# Altium integrated library Microchip DSC 16-Bit dsPIC30F.IntLib: 277 symbols (part 8 of 12)
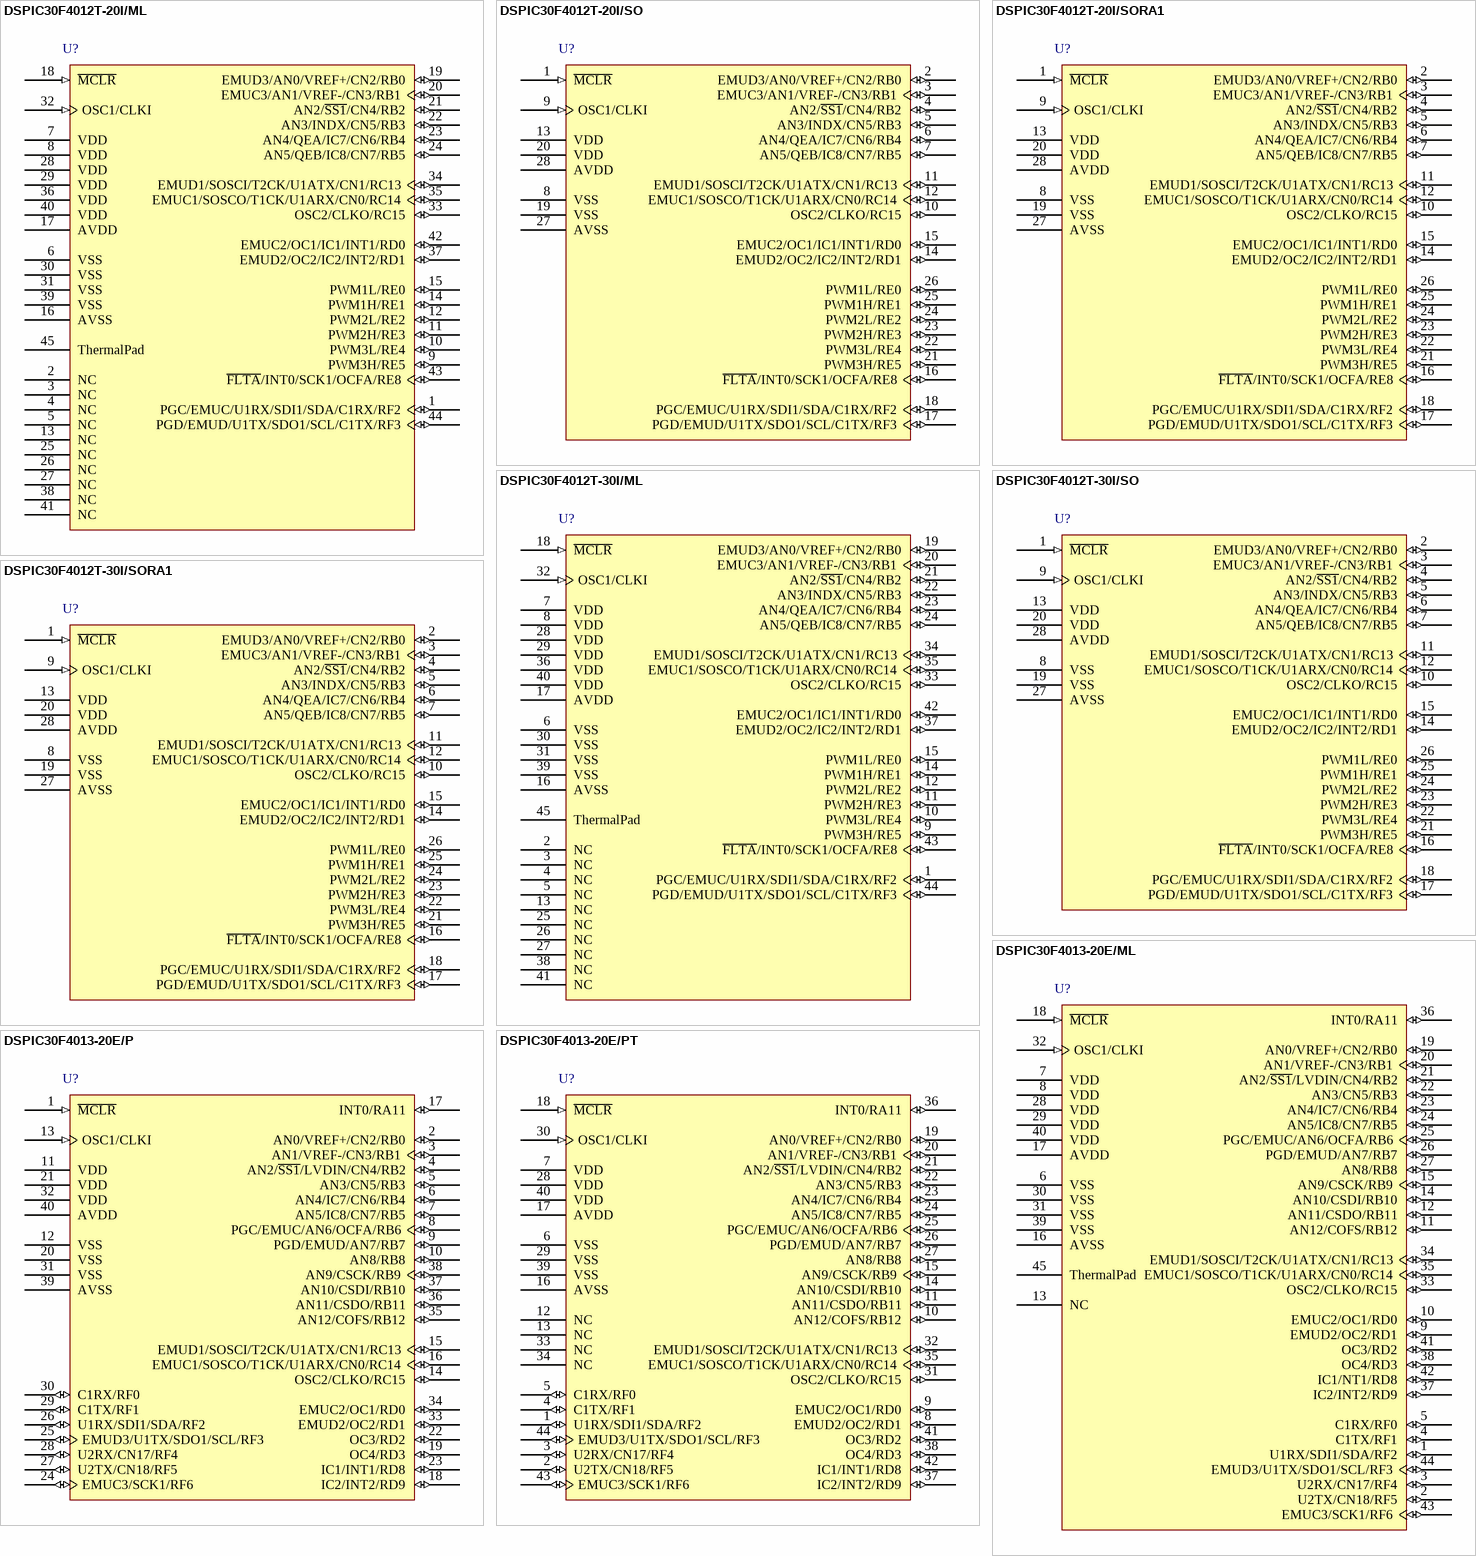
[diagram p51: symbols DSPIC30F4012T-20I/ML to DSPIC30F4013-20E/PT]

## DSPIC30F4013-20E/PT
designator U?
High-Performance 16-bit Digital Signal Controller, 48 KB Flash, 2 KB SRAM, 1 KB EEPROM, 44-Pin TQFP, Extended High Temperature; Published: 29-Jan-2009; DatasheetVersion: revF, Apr-2008; PackageVersion: revAW, Oct-2008; PackageReference: TQFP-PT44; Publisher: Altium Limited; PackageDescription: 44-Lead Plastic Thin Quad Flatpack (PT) - 10x10x1mm Body, 2.00mm [TQFP]; Code_JEDEC: MS-026; ComponentLink1Description: Manufacturer Link; ComponentLink1URL: http://www.microchip.com; ComponentLink2Description: Datasheet; ComponentLink2URL: http://ww1.microchip.com/downloads/en/DeviceDoc/70138F.pdf; ComponentLink3Description: Packaging Specification; ComponentLink3URL: http://ww1.microchip.com/downloads/en/PackagingSpec/00049AW.pdf
footprint TQFP-PT44_N (Thin QFP, 44-Leads, Body 10x10mm, Pitch 0.8mm, IPC Medium Density)
footprint TQFP-PT44_L (Thin QFP, 44-Leads, Body 10x10mm, Pitch 0.8mm, IPC High Density)
footprint TQFP-PT44_M (Thin QFP, 44-Leads, Body 10x10mm, Pitch 0.8mm, IPC Low Density)
pins: 1 U1RX/SDI1/SDA/RF2 (io), 2 U2TX/CN18/RF5 (io), 3 U2RX/CN17/RF4 (io), 4 C1TX/RF1 (io), 5 C1RX/RF0 (io), 6 VSS (power), 7 VDD (power), 8 EMUD2/OC2/RD1 (io), 9 EMUC2/OC1/RD0 (io), 10 AN12/COFS/RB12 (io), 11 AN11/CSDO/RB11 (io), 12 NC, 13 NC, 14 AN10/CSDI/RB10 (io), 15 AN9/CSCK/RB9 (io), 16 AVSS (power), 17 AVDD (power), 18 ~{MCLR} (in), 19 AN0/VREF+/CN2/RB0 (io), 20 AN1/VREF-/CN3/RB1 (io), 21 AN2/~{SS1}/LVDIN/CN4/RB2 (io), 22 AN3/CN5/RB3 (io), 23 AN4/IC7/CN6/RB4 (io), 24 AN5/IC8/CN7/RB5 (io), 25 PGC/EMUC/AN6/OCFA/RB6 (io), 26 PGD/EMUD/AN7/RB7 (io), 27 AN8/RB8 (io), 28 VDD (power), 29 VSS (power), 30 OSC1/CLKI (in), 31 OSC2/CLKO/RC15 (io), 32 EMUD1/SOSCI/T2CK/U1ATX/CN1/RC13 (io), 33 NC, 34 NC, 35 EMUC1/SOSCO/T1CK/U1ARX/CN0/RC14 (io), 36 INT0/RA11 (io), 37 IC2/INT2/RD9 (io), 38 OC4/RD3 (io), 39 VSS (power), 40 VDD (power), 41 OC3/RD2 (io), 42 IC1/INT1/RD8 (io), 43 EMUC3/SCK1/RF6 (io), 44 EMUD3/U1TX/SDO1/SCL/RF3 (io)

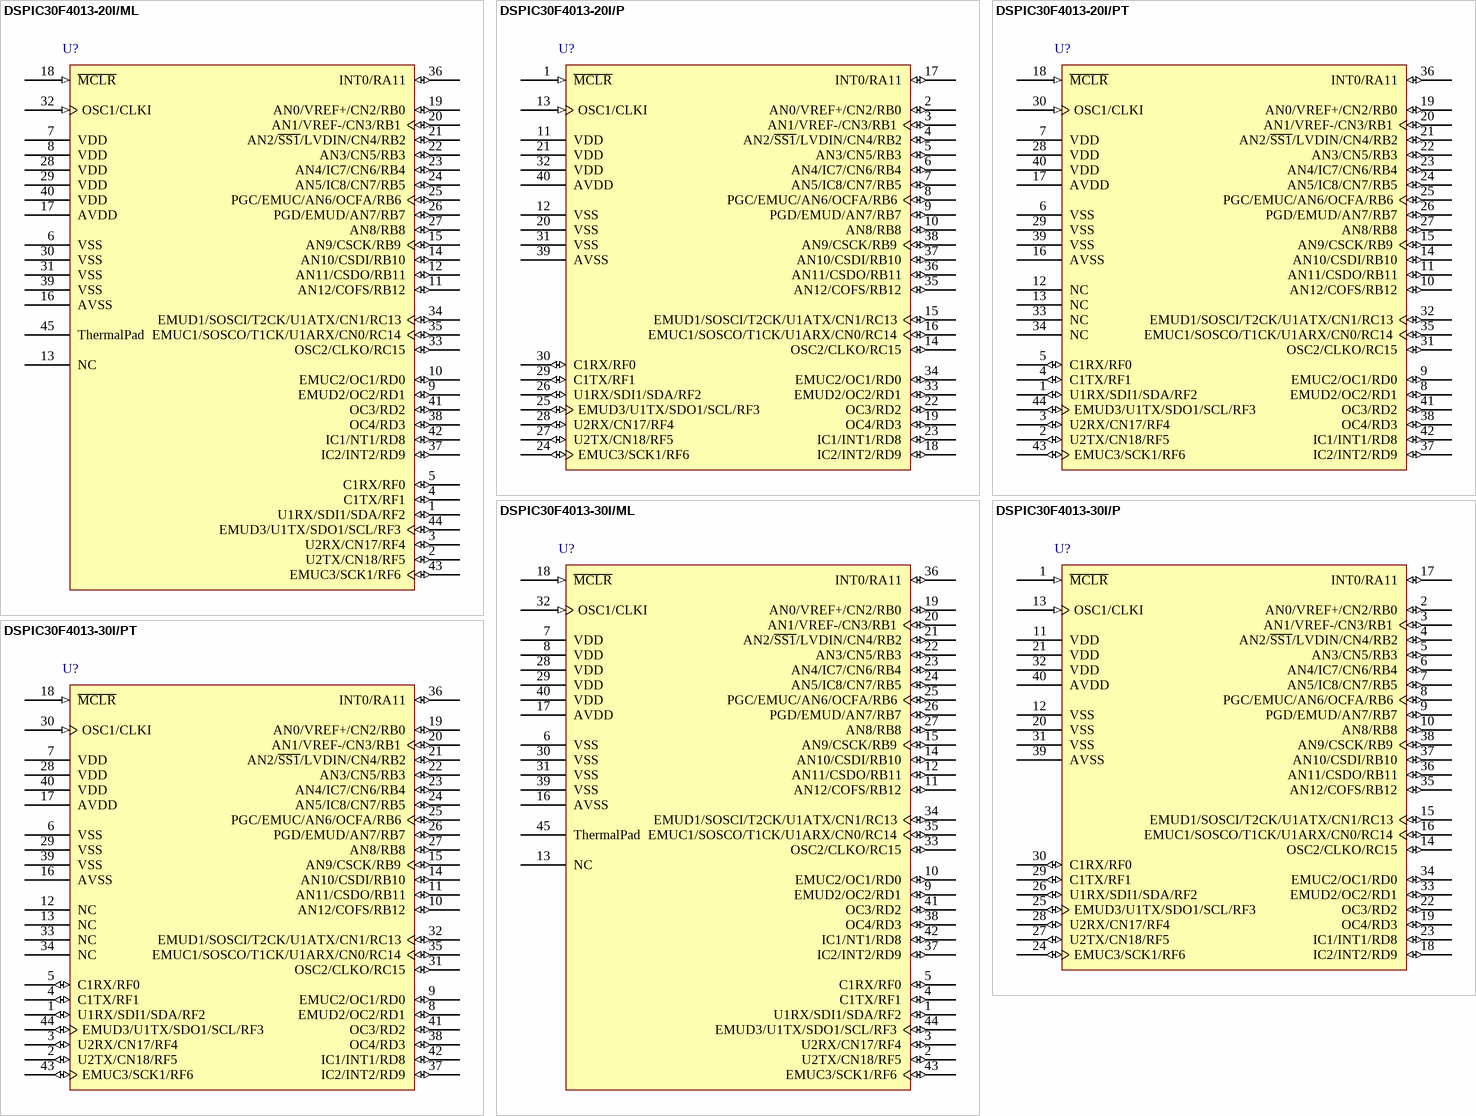
[diagram p25: symbols DSPIC30F4013-20I/ML to DSPIC30F4013-30I/PT]

## DSPIC30F4013-20I/ML
designator U?
High-Performance 16-bit Digital Signal Controller, 48 KB Flash, 2 KB SRAM, 1 KB EEPROM, 44-Pin QFN, Industrial Temperature; Published: 29-Jan-2009; DatasheetVersion: revF, Apr-2008; PackageVersion: revAW, Oct-2008; PackageReference: QFN-ML44; Publisher: Altium Limited; PackageDescription: 44-Lead Plastic Quad Flat, No Lead Package (ML) - 8x8 mm Body [QFN]; Code_JEDEC: MO-220; Code_IPC: QFN65P800X800-44V2; ComponentLink1Description: Manufacturer Link; ComponentLink1URL: http://www.microchip.com; ComponentLink2Description: Datasheet; ComponentLink2URL: http://ww1.microchip.com/downloads/en/DeviceDoc/70138F.pdf; ComponentLink3Description: Packaging Specification; ComponentLink3URL: http://ww1.microchip.com/downloads/en/PackagingSpec/00049AW.pdf
footprint QFN-ML44_N (QFN, 44-Leads, Body 8x8 mm, Pitch 0.65mm, IPC Medium Density)
footprint QFN-ML44_L (QFN, 44-Leads, Body 8x8 mm, Pitch 0.65mm, IPC High Density)
footprint QFN-ML44_M (QFN, 44-Leads, Body 8x8 mm, Pitch 0.65mm, IPC Low Density)
pins: 1 U1RX/SDI1/SDA/RF2 (io), 2 U2TX/CN18/RF5 (io), 3 U2RX/CN17/RF4 (io), 4 C1TX/RF1 (io), 5 C1RX/RF0 (io), 6 VSS (power), 7 VDD (power), 8 VDD (power), 9 EMUD2/OC2/RD1 (io), 10 EMUC2/OC1/RD0 (io), 11 AN12/COFS/RB12 (io), 12 AN11/CSDO/RB11 (io), 13 NC, 14 AN10/CSDI/RB10 (io), 15 AN9/CSCK/RB9 (io), 16 AVSS (power), 17 AVDD (power), 18 ~{MCLR} (in), 19 AN0/VREF+/CN2/RB0 (io), 20 AN1/VREF-/CN3/RB1 (io), 21 AN2/~{SS1}/LVDIN/CN4/RB2 (io), 22 AN3/CN5/RB3 (io), 23 AN4/IC7/CN6/RB4 (io), 24 AN5/IC8/CN7/RB5 (io), 25 PGC/EMUC/AN6/OCFA/RB6 (io), 26 PGD/EMUD/AN7/RB7 (io), 27 AN8/RB8 (io), 28 VDD (power), 29 VDD (power), 30 VSS (power), 31 VSS (power), 32 OSC1/CLKI (in), 33 OSC2/CLKO/RC15 (io), 34 EMUD1/SOSCI/T2CK/U1ATX/CN1/RC13 (io), 35 EMUC1/SOSCO/T1CK/U1ARX/CN0/RC14 (io), 36 INT0/RA11 (io), 37 IC2/INT2/RD9 (io), 38 OC4/RD3 (io), 39 VSS (power), 40 VDD (power), 41 OC3/RD2 (io), 42 IC1/NT1/RD8 (io), 43 EMUC3/SCK1/RF6 (io), 44 EMUD3/U1TX/SDO1/SCL/RF3 (io), 45 ThermalPad

## DSPIC30F4013-20I/P
designator U?
High-Performance 16-bit Digital Signal Controller, 48 KB Flash, 2 KB SRAM, 1 KB EEPROM, 40-Pin PDIP, Industrial Temperature; Published: 29-Jan-2009; DatasheetVersion: revF, Apr-2008; PackageVersion: revAW, Oct-2008; PackageReference: PDIP600-P40; Publisher: Altium Limited; PackageDescription: 40-Lead Plastic Dual In-Line (P) - 600 mil Body [PDIP]; ComponentLink1Description: Manufacturer Link; ComponentLink1URL: http://www.microchip.com; ComponentLink2Description: Datasheet; ComponentLink2URL: http://ww1.microchip.com/downloads/en/DeviceDoc/70138F.pdf; ComponentLink3Description: Packaging Specification; ComponentLink3URL: http://ww1.microchip.com/downloads/en/PackagingSpec/00049AW.pdf
footprint PDIP600-P40 (DIP, 40-Leads, Row Spacing 15.24mm, Pitch 2.54mm, Body 51.8x13.5mm)
pins: 1 ~{MCLR} (in), 2 AN0/VREF+/CN2/RB0 (io), 3 AN1/VREF-/CN3/RB1 (io), 4 AN2/~{SS1}/LVDIN/CN4/RB2 (io), 5 AN3/CN5/RB3 (io), 6 AN4/IC7/CN6/RB4 (io), 7 AN5/IC8/CN7/RB5 (io), 8 PGC/EMUC/AN6/OCFA/RB6 (io), 9 PGD/EMUD/AN7/RB7 (io), 10 AN8/RB8 (io), 11 VDD (power), 12 VSS (power), 13 OSC1/CLKI (in), 14 OSC2/CLKO/RC15 (io), 15 EMUD1/SOSCI/T2CK/U1ATX/CN1/RC13 (io), 16 EMUC1/SOSCO/T1CK/U1ARX/CN0/RC14 (io), 17 INT0/RA11 (io), 18 IC2/INT2/RD9 (io), 19 OC4/RD3 (io), 20 VSS (power), 21 VDD (power), 22 OC3/RD2 (io), 23 IC1/INT1/RD8 (io), 24 EMUC3/SCK1/RF6 (io), 25 EMUD3/U1TX/SDO1/SCL/RF3 (io), 26 U1RX/SDI1/SDA/RF2 (io), 27 U2TX/CN18/RF5 (io), 28 U2RX/CN17/RF4 (io), 29 C1TX/RF1 (io), 30 C1RX/RF0 (io), 31 VSS (power), 32 VDD (power), 33 EMUD2/OC2/RD1 (io), 34 EMUC2/OC1/RD0 (io), 35 AN12/COFS/RB12 (io), 36 AN11/CSDO/RB11 (io), 37 AN10/CSDI/RB10 (io), 38 AN9/CSCK/RB9 (io), 39 AVSS (power), 40 AVDD (power)

## DSPIC30F4013-20I/PT
designator U?
High-Performance 16-bit Digital Signal Controller, 48 KB Flash, 2 KB SRAM, 1 KB EEPROM, 44-Pin TQFP, Industrial Temperature; Published: 29-Jan-2009; DatasheetVersion: revF, Apr-2008; PackageVersion: revAW, Oct-2008; PackageReference: TQFP-PT44; Publisher: Altium Limited; PackageDescription: 44-Lead Plastic Thin Quad Flatpack (PT) - 10x10x1mm Body, 2.00mm [TQFP]; Code_JEDEC: MS-026; ComponentLink1Description: Manufacturer Link; ComponentLink1URL: http://www.microchip.com; ComponentLink2Description: Datasheet; ComponentLink2URL: http://ww1.microchip.com/downloads/en/DeviceDoc/70138F.pdf; ComponentLink3Description: Packaging Specification; ComponentLink3URL: http://ww1.microchip.com/downloads/en/PackagingSpec/00049AW.pdf
footprint TQFP-PT44_N (Thin QFP, 44-Leads, Body 10x10mm, Pitch 0.8mm, IPC Medium Density)
footprint TQFP-PT44_L (Thin QFP, 44-Leads, Body 10x10mm, Pitch 0.8mm, IPC High Density)
footprint TQFP-PT44_M (Thin QFP, 44-Leads, Body 10x10mm, Pitch 0.8mm, IPC Low Density)
pins: 1 U1RX/SDI1/SDA/RF2 (io), 2 U2TX/CN18/RF5 (io), 3 U2RX/CN17/RF4 (io), 4 C1TX/RF1 (io), 5 C1RX/RF0 (io), 6 VSS (power), 7 VDD (power), 8 EMUD2/OC2/RD1 (io), 9 EMUC2/OC1/RD0 (io), 10 AN12/COFS/RB12 (io), 11 AN11/CSDO/RB11 (io), 12 NC, 13 NC, 14 AN10/CSDI/RB10 (io), 15 AN9/CSCK/RB9 (io), 16 AVSS (power), 17 AVDD (power), 18 ~{MCLR} (in), 19 AN0/VREF+/CN2/RB0 (io), 20 AN1/VREF-/CN3/RB1 (io), 21 AN2/~{SS1}/LVDIN/CN4/RB2 (io), 22 AN3/CN5/RB3 (io), 23 AN4/IC7/CN6/RB4 (io), 24 AN5/IC8/CN7/RB5 (io), 25 PGC/EMUC/AN6/OCFA/RB6 (io), 26 PGD/EMUD/AN7/RB7 (io), 27 AN8/RB8 (io), 28 VDD (power), 29 VSS (power), 30 OSC1/CLKI (in), 31 OSC2/CLKO/RC15 (io), 32 EMUD1/SOSCI/T2CK/U1ATX/CN1/RC13 (io), 33 NC, 34 NC, 35 EMUC1/SOSCO/T1CK/U1ARX/CN0/RC14 (io), 36 INT0/RA11 (io), 37 IC2/INT2/RD9 (io), 38 OC4/RD3 (io), 39 VSS (power), 40 VDD (power), 41 OC3/RD2 (io), 42 IC1/INT1/RD8 (io), 43 EMUC3/SCK1/RF6 (io), 44 EMUD3/U1TX/SDO1/SCL/RF3 (io)

## DSPIC30F4013-30I/ML
designator U?
High-Performance 16-bit Digital Signal Controller, 48 KB Flash, 2 KB SRAM, 1 KB EEPROM, 44-Pin QFN, Industrial Temperature; Published: 29-Jan-2009; DatasheetVersion: revF, Apr-2008; PackageVersion: revAW, Oct-2008; PackageReference: QFN-ML44; Publisher: Altium Limited; PackageDescription: 44-Lead Plastic Quad Flat, No Lead Package (ML) - 8x8 mm Body [QFN]; Code_JEDEC: MO-220; Code_IPC: QFN65P800X800-44V2; ComponentLink1Description: Manufacturer Link; ComponentLink1URL: http://www.microchip.com; ComponentLink2Description: Datasheet; ComponentLink2URL: http://ww1.microchip.com/downloads/en/DeviceDoc/70138F.pdf; ComponentLink3Description: Packaging Specification; ComponentLink3URL: http://ww1.microchip.com/downloads/en/PackagingSpec/00049AW.pdf
footprint QFN-ML44_N (QFN, 44-Leads, Body 8x8 mm, Pitch 0.65mm, IPC Medium Density)
footprint QFN-ML44_L (QFN, 44-Leads, Body 8x8 mm, Pitch 0.65mm, IPC High Density)
footprint QFN-ML44_M (QFN, 44-Leads, Body 8x8 mm, Pitch 0.65mm, IPC Low Density)
pins: 1 U1RX/SDI1/SDA/RF2 (io), 2 U2TX/CN18/RF5 (io), 3 U2RX/CN17/RF4 (io), 4 C1TX/RF1 (io), 5 C1RX/RF0 (io), 6 VSS (power), 7 VDD (power), 8 VDD (power), 9 EMUD2/OC2/RD1 (io), 10 EMUC2/OC1/RD0 (io), 11 AN12/COFS/RB12 (io), 12 AN11/CSDO/RB11 (io), 13 NC, 14 AN10/CSDI/RB10 (io), 15 AN9/CSCK/RB9 (io), 16 AVSS (power), 17 AVDD (power), 18 ~{MCLR} (in), 19 AN0/VREF+/CN2/RB0 (io), 20 AN1/VREF-/CN3/RB1 (io), 21 AN2/~{SS1}/LVDIN/CN4/RB2 (io), 22 AN3/CN5/RB3 (io), 23 AN4/IC7/CN6/RB4 (io), 24 AN5/IC8/CN7/RB5 (io), 25 PGC/EMUC/AN6/OCFA/RB6 (io), 26 PGD/EMUD/AN7/RB7 (io), 27 AN8/RB8 (io), 28 VDD (power), 29 VDD (power), 30 VSS (power), 31 VSS (power), 32 OSC1/CLKI (in), 33 OSC2/CLKO/RC15 (io), 34 EMUD1/SOSCI/T2CK/U1ATX/CN1/RC13 (io), 35 EMUC1/SOSCO/T1CK/U1ARX/CN0/RC14 (io), 36 INT0/RA11 (io), 37 IC2/INT2/RD9 (io), 38 OC4/RD3 (io), 39 VSS (power), 40 VDD (power), 41 OC3/RD2 (io), 42 IC1/NT1/RD8 (io), 43 EMUC3/SCK1/RF6 (io), 44 EMUD3/U1TX/SDO1/SCL/RF3 (io), 45 ThermalPad

## DSPIC30F4013-30I/P
designator U?
High-Performance 16-bit Digital Signal Controller, 48 KB Flash, 2 KB SRAM, 1 KB EEPROM, 40-Pin PDIP, Industrial Temperature; Published: 29-Jan-2009; DatasheetVersion: revF, Apr-2008; PackageVersion: revAW, Oct-2008; PackageReference: PDIP600-P40; Publisher: Altium Limited; PackageDescription: 40-Lead Plastic Dual In-Line (P) - 600 mil Body [PDIP]; ComponentLink1Description: Manufacturer Link; ComponentLink1URL: http://www.microchip.com; ComponentLink2Description: Datasheet; ComponentLink2URL: http://ww1.microchip.com/downloads/en/DeviceDoc/70138F.pdf; ComponentLink3Description: Packaging Specification; ComponentLink3URL: http://ww1.microchip.com/downloads/en/PackagingSpec/00049AW.pdf
footprint PDIP600-P40 (DIP, 40-Leads, Row Spacing 15.24mm, Pitch 2.54mm, Body 51.8x13.5mm)
pins: 1 ~{MCLR} (in), 2 AN0/VREF+/CN2/RB0 (io), 3 AN1/VREF-/CN3/RB1 (io), 4 AN2/~{SS1}/LVDIN/CN4/RB2 (io), 5 AN3/CN5/RB3 (io), 6 AN4/IC7/CN6/RB4 (io), 7 AN5/IC8/CN7/RB5 (io), 8 PGC/EMUC/AN6/OCFA/RB6 (io), 9 PGD/EMUD/AN7/RB7 (io), 10 AN8/RB8 (io), 11 VDD (power), 12 VSS (power), 13 OSC1/CLKI (in), 14 OSC2/CLKO/RC15 (io), 15 EMUD1/SOSCI/T2CK/U1ATX/CN1/RC13 (io), 16 EMUC1/SOSCO/T1CK/U1ARX/CN0/RC14 (io), 17 INT0/RA11 (io), 18 IC2/INT2/RD9 (io), 19 OC4/RD3 (io), 20 VSS (power), 21 VDD (power), 22 OC3/RD2 (io), 23 IC1/INT1/RD8 (io), 24 EMUC3/SCK1/RF6 (io), 25 EMUD3/U1TX/SDO1/SCL/RF3 (io), 26 U1RX/SDI1/SDA/RF2 (io), 27 U2TX/CN18/RF5 (io), 28 U2RX/CN17/RF4 (io), 29 C1TX/RF1 (io), 30 C1RX/RF0 (io), 31 VSS (power), 32 VDD (power), 33 EMUD2/OC2/RD1 (io), 34 EMUC2/OC1/RD0 (io), 35 AN12/COFS/RB12 (io), 36 AN11/CSDO/RB11 (io), 37 AN10/CSDI/RB10 (io), 38 AN9/CSCK/RB9 (io), 39 AVSS (power), 40 AVDD (power)

## DSPIC30F4013-30I/PT
designator U?
High-Performance 16-bit Digital Signal Controller, 48 KB Flash, 2 KB SRAM, 1 KB EEPROM, 44-Pin TQFP, Industrial Temperature; Published: 29-Jan-2009; DatasheetVersion: revF, Apr-2008; PackageVersion: revAW, Oct-2008; PackageReference: TQFP-PT44; Publisher: Altium Limited; PackageDescription: 44-Lead Plastic Thin Quad Flatpack (PT) - 10x10x1mm Body, 2.00mm [TQFP]; Code_JEDEC: MS-026; ComponentLink1Description: Manufacturer Link; ComponentLink1URL: http://www.microchip.com; ComponentLink2Description: Datasheet; ComponentLink2URL: http://ww1.microchip.com/downloads/en/DeviceDoc/70138F.pdf; ComponentLink3Description: Packaging Specification; ComponentLink3URL: http://ww1.microchip.com/downloads/en/PackagingSpec/00049AW.pdf
footprint TQFP-PT44_N (Thin QFP, 44-Leads, Body 10x10mm, Pitch 0.8mm, IPC Medium Density)
footprint TQFP-PT44_L (Thin QFP, 44-Leads, Body 10x10mm, Pitch 0.8mm, IPC High Density)
footprint TQFP-PT44_M (Thin QFP, 44-Leads, Body 10x10mm, Pitch 0.8mm, IPC Low Density)
pins: 1 U1RX/SDI1/SDA/RF2 (io), 2 U2TX/CN18/RF5 (io), 3 U2RX/CN17/RF4 (io), 4 C1TX/RF1 (io), 5 C1RX/RF0 (io), 6 VSS (power), 7 VDD (power), 8 EMUD2/OC2/RD1 (io), 9 EMUC2/OC1/RD0 (io), 10 AN12/COFS/RB12 (io), 11 AN11/CSDO/RB11 (io), 12 NC, 13 NC, 14 AN10/CSDI/RB10 (io), 15 AN9/CSCK/RB9 (io), 16 AVSS (power), 17 AVDD (power), 18 ~{MCLR} (in), 19 AN0/VREF+/CN2/RB0 (io), 20 AN1/VREF-/CN3/RB1 (io), 21 AN2/~{SS1}/LVDIN/CN4/RB2 (io), 22 AN3/CN5/RB3 (io), 23 AN4/IC7/CN6/RB4 (io), 24 AN5/IC8/CN7/RB5 (io), 25 PGC/EMUC/AN6/OCFA/RB6 (io), 26 PGD/EMUD/AN7/RB7 (io), 27 AN8/RB8 (io), 28 VDD (power), 29 VSS (power), 30 OSC1/CLKI (in), 31 OSC2/CLKO/RC15 (io), 32 EMUD1/SOSCI/T2CK/U1ATX/CN1/RC13 (io), 33 NC, 34 NC, 35 EMUC1/SOSCO/T1CK/U1ARX/CN0/RC14 (io), 36 INT0/RA11 (io), 37 IC2/INT2/RD9 (io), 38 OC4/RD3 (io), 39 VSS (power), 40 VDD (power), 41 OC3/RD2 (io), 42 IC1/INT1/RD8 (io), 43 EMUC3/SCK1/RF6 (io), 44 EMUD3/U1TX/SDO1/SCL/RF3 (io)

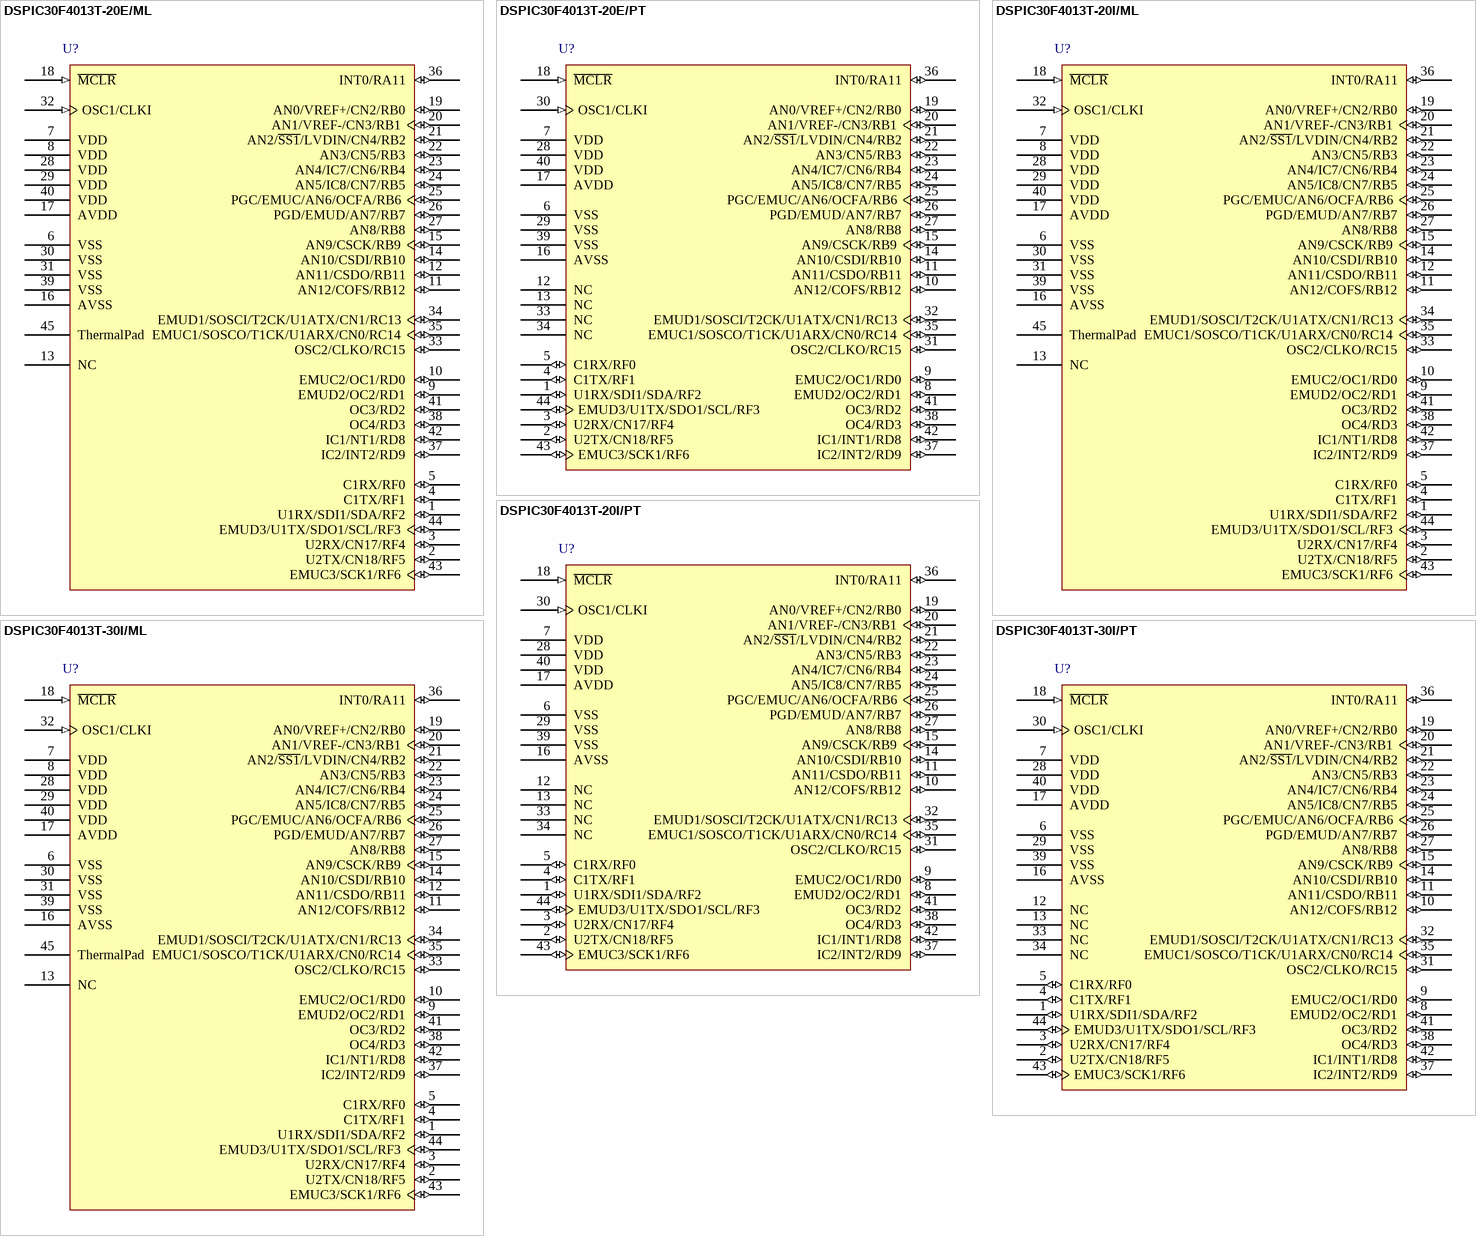
[diagram p26: symbols DSPIC30F4013T-20E/ML to DSPIC30F4013T-30I/PT]

## DSPIC30F4013T-20E/ML
designator U?
High-Performance 16-bit Digital Signal Controller, 48 KB Flash, 2 KB SRAM, 1 KB EEPROM, 44-Pin QFN, Extended High Temperature, Tape and Reel; Published: 29-Jan-2009; DatasheetVersion: revF, Apr-2008; PackageVersion: revAW, Oct-2008; PackageReference: QFN-ML44; Publisher: Altium Limited; PackageDescription: 44-Lead Plastic Quad Flat, No Lead Package (ML) - 8x8 mm Body [QFN]; Code_JEDEC: MO-220; Code_IPC: QFN65P800X800-44V2; ComponentLink1Description: Manufacturer Link; ComponentLink1URL: http://www.microchip.com; ComponentLink2Description: Datasheet; ComponentLink2URL: http://ww1.microchip.com/downloads/en/DeviceDoc/70138F.pdf; ComponentLink3Description: Packaging Specification; ComponentLink3URL: http://ww1.microchip.com/downloads/en/PackagingSpec/00049AW.pdf
footprint QFN-ML44_N (QFN, 44-Leads, Body 8x8 mm, Pitch 0.65mm, IPC Medium Density)
footprint QFN-ML44_L (QFN, 44-Leads, Body 8x8 mm, Pitch 0.65mm, IPC High Density)
footprint QFN-ML44_M (QFN, 44-Leads, Body 8x8 mm, Pitch 0.65mm, IPC Low Density)
pins: 1 U1RX/SDI1/SDA/RF2 (io), 2 U2TX/CN18/RF5 (io), 3 U2RX/CN17/RF4 (io), 4 C1TX/RF1 (io), 5 C1RX/RF0 (io), 6 VSS (power), 7 VDD (power), 8 VDD (power), 9 EMUD2/OC2/RD1 (io), 10 EMUC2/OC1/RD0 (io), 11 AN12/COFS/RB12 (io), 12 AN11/CSDO/RB11 (io), 13 NC, 14 AN10/CSDI/RB10 (io), 15 AN9/CSCK/RB9 (io), 16 AVSS (power), 17 AVDD (power), 18 ~{MCLR} (in), 19 AN0/VREF+/CN2/RB0 (io), 20 AN1/VREF-/CN3/RB1 (io), 21 AN2/~{SS1}/LVDIN/CN4/RB2 (io), 22 AN3/CN5/RB3 (io), 23 AN4/IC7/CN6/RB4 (io), 24 AN5/IC8/CN7/RB5 (io), 25 PGC/EMUC/AN6/OCFA/RB6 (io), 26 PGD/EMUD/AN7/RB7 (io), 27 AN8/RB8 (io), 28 VDD (power), 29 VDD (power), 30 VSS (power), 31 VSS (power), 32 OSC1/CLKI (in), 33 OSC2/CLKO/RC15 (io), 34 EMUD1/SOSCI/T2CK/U1ATX/CN1/RC13 (io), 35 EMUC1/SOSCO/T1CK/U1ARX/CN0/RC14 (io), 36 INT0/RA11 (io), 37 IC2/INT2/RD9 (io), 38 OC4/RD3 (io), 39 VSS (power), 40 VDD (power), 41 OC3/RD2 (io), 42 IC1/NT1/RD8 (io), 43 EMUC3/SCK1/RF6 (io), 44 EMUD3/U1TX/SDO1/SCL/RF3 (io), 45 ThermalPad

## DSPIC30F4013T-20E/PT
designator U?
High-Performance 16-bit Digital Signal Controller, 48 KB Flash, 2 KB SRAM, 1 KB EEPROM, 44-Pin TQFP, Extended High Temperature, Tape and Reel; Published: 29-Jan-2009; DatasheetVersion: revF, Apr-2008; PackageVersion: revAW, Oct-2008; PackageReference: TQFP-PT44; Publisher: Altium Limited; PackageDescription: 44-Lead Plastic Thin Quad Flatpack (PT) - 10x10x1mm Body, 2.00mm [TQFP]; Code_JEDEC: MS-026; ComponentLink1Description: Manufacturer Link; ComponentLink1URL: http://www.microchip.com; ComponentLink2Description: Datasheet; ComponentLink2URL: http://ww1.microchip.com/downloads/en/DeviceDoc/70138F.pdf; ComponentLink3Description: Packaging Specification; ComponentLink3URL: http://ww1.microchip.com/downloads/en/PackagingSpec/00049AW.pdf
footprint TQFP-PT44_N (Thin QFP, 44-Leads, Body 10x10mm, Pitch 0.8mm, IPC Medium Density)
footprint TQFP-PT44_L (Thin QFP, 44-Leads, Body 10x10mm, Pitch 0.8mm, IPC High Density)
footprint TQFP-PT44_M (Thin QFP, 44-Leads, Body 10x10mm, Pitch 0.8mm, IPC Low Density)
pins: 1 U1RX/SDI1/SDA/RF2 (io), 2 U2TX/CN18/RF5 (io), 3 U2RX/CN17/RF4 (io), 4 C1TX/RF1 (io), 5 C1RX/RF0 (io), 6 VSS (power), 7 VDD (power), 8 EMUD2/OC2/RD1 (io), 9 EMUC2/OC1/RD0 (io), 10 AN12/COFS/RB12 (io), 11 AN11/CSDO/RB11 (io), 12 NC, 13 NC, 14 AN10/CSDI/RB10 (io), 15 AN9/CSCK/RB9 (io), 16 AVSS (power), 17 AVDD (power), 18 ~{MCLR} (in), 19 AN0/VREF+/CN2/RB0 (io), 20 AN1/VREF-/CN3/RB1 (io), 21 AN2/~{SS1}/LVDIN/CN4/RB2 (io), 22 AN3/CN5/RB3 (io), 23 AN4/IC7/CN6/RB4 (io), 24 AN5/IC8/CN7/RB5 (io), 25 PGC/EMUC/AN6/OCFA/RB6 (io), 26 PGD/EMUD/AN7/RB7 (io), 27 AN8/RB8 (io), 28 VDD (power), 29 VSS (power), 30 OSC1/CLKI (in), 31 OSC2/CLKO/RC15 (io), 32 EMUD1/SOSCI/T2CK/U1ATX/CN1/RC13 (io), 33 NC, 34 NC, 35 EMUC1/SOSCO/T1CK/U1ARX/CN0/RC14 (io), 36 INT0/RA11 (io), 37 IC2/INT2/RD9 (io), 38 OC4/RD3 (io), 39 VSS (power), 40 VDD (power), 41 OC3/RD2 (io), 42 IC1/INT1/RD8 (io), 43 EMUC3/SCK1/RF6 (io), 44 EMUD3/U1TX/SDO1/SCL/RF3 (io)

## DSPIC30F4013T-20I/ML
designator U?
High-Performance 16-bit Digital Signal Controller, 48 KB Flash, 2 KB SRAM, 1 KB EEPROM, 44-Pin QFN, Industrial Temperature, Tape and Reel; Published: 29-Jan-2009; DatasheetVersion: revF, Apr-2008; PackageVersion: revAW, Oct-2008; PackageReference: QFN-ML44; Publisher: Altium Limited; PackageDescription: 44-Lead Plastic Quad Flat, No Lead Package (ML) - 8x8 mm Body [QFN]; Code_JEDEC: MO-220; Code_IPC: QFN65P800X800-44V2; ComponentLink1Description: Manufacturer Link; ComponentLink1URL: http://www.microchip.com; ComponentLink2Description: Datasheet; ComponentLink2URL: http://ww1.microchip.com/downloads/en/DeviceDoc/70138F.pdf; ComponentLink3Description: Packaging Specification; ComponentLink3URL: http://ww1.microchip.com/downloads/en/PackagingSpec/00049AW.pdf
footprint QFN-ML44_N (QFN, 44-Leads, Body 8x8 mm, Pitch 0.65mm, IPC Medium Density)
footprint QFN-ML44_L (QFN, 44-Leads, Body 8x8 mm, Pitch 0.65mm, IPC High Density)
footprint QFN-ML44_M (QFN, 44-Leads, Body 8x8 mm, Pitch 0.65mm, IPC Low Density)
pins: 1 U1RX/SDI1/SDA/RF2 (io), 2 U2TX/CN18/RF5 (io), 3 U2RX/CN17/RF4 (io), 4 C1TX/RF1 (io), 5 C1RX/RF0 (io), 6 VSS (power), 7 VDD (power), 8 VDD (power), 9 EMUD2/OC2/RD1 (io), 10 EMUC2/OC1/RD0 (io), 11 AN12/COFS/RB12 (io), 12 AN11/CSDO/RB11 (io), 13 NC, 14 AN10/CSDI/RB10 (io), 15 AN9/CSCK/RB9 (io), 16 AVSS (power), 17 AVDD (power), 18 ~{MCLR} (in), 19 AN0/VREF+/CN2/RB0 (io), 20 AN1/VREF-/CN3/RB1 (io), 21 AN2/~{SS1}/LVDIN/CN4/RB2 (io), 22 AN3/CN5/RB3 (io), 23 AN4/IC7/CN6/RB4 (io), 24 AN5/IC8/CN7/RB5 (io), 25 PGC/EMUC/AN6/OCFA/RB6 (io), 26 PGD/EMUD/AN7/RB7 (io), 27 AN8/RB8 (io), 28 VDD (power), 29 VDD (power), 30 VSS (power), 31 VSS (power), 32 OSC1/CLKI (in), 33 OSC2/CLKO/RC15 (io), 34 EMUD1/SOSCI/T2CK/U1ATX/CN1/RC13 (io), 35 EMUC1/SOSCO/T1CK/U1ARX/CN0/RC14 (io), 36 INT0/RA11 (io), 37 IC2/INT2/RD9 (io), 38 OC4/RD3 (io), 39 VSS (power), 40 VDD (power), 41 OC3/RD2 (io), 42 IC1/NT1/RD8 (io), 43 EMUC3/SCK1/RF6 (io), 44 EMUD3/U1TX/SDO1/SCL/RF3 (io), 45 ThermalPad

## DSPIC30F4013T-20I/PT
designator U?
High-Performance 16-bit Digital Signal Controller, 48 KB Flash, 2 KB SRAM, 1 KB EEPROM, 44-Pin TQFP, Industrial Temperature, Tape and Reel; Published: 29-Jan-2009; DatasheetVersion: revF, Apr-2008; PackageVersion: revAW, Oct-2008; PackageReference: TQFP-PT44; Publisher: Altium Limited; PackageDescription: 44-Lead Plastic Thin Quad Flatpack (PT) - 10x10x1mm Body, 2.00mm [TQFP]; Code_JEDEC: MS-026; ComponentLink1Description: Manufacturer Link; ComponentLink1URL: http://www.microchip.com; ComponentLink2Description: Datasheet; ComponentLink2URL: http://ww1.microchip.com/downloads/en/DeviceDoc/70138F.pdf; ComponentLink3Description: Packaging Specification; ComponentLink3URL: http://ww1.microchip.com/downloads/en/PackagingSpec/00049AW.pdf
footprint TQFP-PT44_N (Thin QFP, 44-Leads, Body 10x10mm, Pitch 0.8mm, IPC Medium Density)
footprint TQFP-PT44_L (Thin QFP, 44-Leads, Body 10x10mm, Pitch 0.8mm, IPC High Density)
footprint TQFP-PT44_M (Thin QFP, 44-Leads, Body 10x10mm, Pitch 0.8mm, IPC Low Density)
pins: 1 U1RX/SDI1/SDA/RF2 (io), 2 U2TX/CN18/RF5 (io), 3 U2RX/CN17/RF4 (io), 4 C1TX/RF1 (io), 5 C1RX/RF0 (io), 6 VSS (power), 7 VDD (power), 8 EMUD2/OC2/RD1 (io), 9 EMUC2/OC1/RD0 (io), 10 AN12/COFS/RB12 (io), 11 AN11/CSDO/RB11 (io), 12 NC, 13 NC, 14 AN10/CSDI/RB10 (io), 15 AN9/CSCK/RB9 (io), 16 AVSS (power), 17 AVDD (power), 18 ~{MCLR} (in), 19 AN0/VREF+/CN2/RB0 (io), 20 AN1/VREF-/CN3/RB1 (io), 21 AN2/~{SS1}/LVDIN/CN4/RB2 (io), 22 AN3/CN5/RB3 (io), 23 AN4/IC7/CN6/RB4 (io), 24 AN5/IC8/CN7/RB5 (io), 25 PGC/EMUC/AN6/OCFA/RB6 (io), 26 PGD/EMUD/AN7/RB7 (io), 27 AN8/RB8 (io), 28 VDD (power), 29 VSS (power), 30 OSC1/CLKI (in), 31 OSC2/CLKO/RC15 (io), 32 EMUD1/SOSCI/T2CK/U1ATX/CN1/RC13 (io), 33 NC, 34 NC, 35 EMUC1/SOSCO/T1CK/U1ARX/CN0/RC14 (io), 36 INT0/RA11 (io), 37 IC2/INT2/RD9 (io), 38 OC4/RD3 (io), 39 VSS (power), 40 VDD (power), 41 OC3/RD2 (io), 42 IC1/INT1/RD8 (io), 43 EMUC3/SCK1/RF6 (io), 44 EMUD3/U1TX/SDO1/SCL/RF3 (io)

## DSPIC30F4013T-30I/ML
designator U?
High-Performance 16-bit Digital Signal Controller, 48 KB Flash, 2 KB SRAM, 1 KB EEPROM, 44-Pin QFN, Industrial Temperature, Tape and Reel; Published: 29-Jan-2009; DatasheetVersion: revF, Apr-2008; PackageVersion: revAW, Oct-2008; PackageReference: QFN-ML44; Publisher: Altium Limited; PackageDescription: 44-Lead Plastic Quad Flat, No Lead Package (ML) - 8x8 mm Body [QFN]; Code_JEDEC: MO-220; Code_IPC: QFN65P800X800-44V2; ComponentLink1Description: Manufacturer Link; ComponentLink1URL: http://www.microchip.com; ComponentLink2Description: Datasheet; ComponentLink2URL: http://ww1.microchip.com/downloads/en/DeviceDoc/70138F.pdf; ComponentLink3Description: Packaging Specification; ComponentLink3URL: http://ww1.microchip.com/downloads/en/PackagingSpec/00049AW.pdf
footprint QFN-ML44_N (QFN, 44-Leads, Body 8x8 mm, Pitch 0.65mm, IPC Medium Density)
footprint QFN-ML44_L (QFN, 44-Leads, Body 8x8 mm, Pitch 0.65mm, IPC High Density)
footprint QFN-ML44_M (QFN, 44-Leads, Body 8x8 mm, Pitch 0.65mm, IPC Low Density)
pins: 1 U1RX/SDI1/SDA/RF2 (io), 2 U2TX/CN18/RF5 (io), 3 U2RX/CN17/RF4 (io), 4 C1TX/RF1 (io), 5 C1RX/RF0 (io), 6 VSS (power), 7 VDD (power), 8 VDD (power), 9 EMUD2/OC2/RD1 (io), 10 EMUC2/OC1/RD0 (io), 11 AN12/COFS/RB12 (io), 12 AN11/CSDO/RB11 (io), 13 NC, 14 AN10/CSDI/RB10 (io), 15 AN9/CSCK/RB9 (io), 16 AVSS (power), 17 AVDD (power), 18 ~{MCLR} (in), 19 AN0/VREF+/CN2/RB0 (io), 20 AN1/VREF-/CN3/RB1 (io), 21 AN2/~{SS1}/LVDIN/CN4/RB2 (io), 22 AN3/CN5/RB3 (io), 23 AN4/IC7/CN6/RB4 (io), 24 AN5/IC8/CN7/RB5 (io), 25 PGC/EMUC/AN6/OCFA/RB6 (io), 26 PGD/EMUD/AN7/RB7 (io), 27 AN8/RB8 (io), 28 VDD (power), 29 VDD (power), 30 VSS (power), 31 VSS (power), 32 OSC1/CLKI (in), 33 OSC2/CLKO/RC15 (io), 34 EMUD1/SOSCI/T2CK/U1ATX/CN1/RC13 (io), 35 EMUC1/SOSCO/T1CK/U1ARX/CN0/RC14 (io), 36 INT0/RA11 (io), 37 IC2/INT2/RD9 (io), 38 OC4/RD3 (io), 39 VSS (power), 40 VDD (power), 41 OC3/RD2 (io), 42 IC1/NT1/RD8 (io), 43 EMUC3/SCK1/RF6 (io), 44 EMUD3/U1TX/SDO1/SCL/RF3 (io), 45 ThermalPad

## DSPIC30F4013T-30I/PT
designator U?
High-Performance 16-bit Digital Signal Controller, 48 KB Flash, 2 KB SRAM, 1 KB EEPROM, 44-Pin TQFP, Industrial Temperature, Tape and Reel; Published: 29-Jan-2009; DatasheetVersion: revF, Apr-2008; PackageVersion: revAW, Oct-2008; PackageReference: TQFP-PT44; Publisher: Altium Limited; PackageDescription: 44-Lead Plastic Thin Quad Flatpack (PT) - 10x10x1mm Body, 2.00mm [TQFP]; Code_JEDEC: MS-026; ComponentLink1Description: Manufacturer Link; ComponentLink1URL: http://www.microchip.com; ComponentLink2Description: Datasheet; ComponentLink2URL: http://ww1.microchip.com/downloads/en/DeviceDoc/70138F.pdf; ComponentLink3Description: Packaging Specification; ComponentLink3URL: http://ww1.microchip.com/downloads/en/PackagingSpec/00049AW.pdf
footprint TQFP-PT44_N (Thin QFP, 44-Leads, Body 10x10mm, Pitch 0.8mm, IPC Medium Density)
footprint TQFP-PT44_L (Thin QFP, 44-Leads, Body 10x10mm, Pitch 0.8mm, IPC High Density)
footprint TQFP-PT44_M (Thin QFP, 44-Leads, Body 10x10mm, Pitch 0.8mm, IPC Low Density)
pins: 1 U1RX/SDI1/SDA/RF2 (io), 2 U2TX/CN18/RF5 (io), 3 U2RX/CN17/RF4 (io), 4 C1TX/RF1 (io), 5 C1RX/RF0 (io), 6 VSS (power), 7 VDD (power), 8 EMUD2/OC2/RD1 (io), 9 EMUC2/OC1/RD0 (io), 10 AN12/COFS/RB12 (io), 11 AN11/CSDO/RB11 (io), 12 NC, 13 NC, 14 AN10/CSDI/RB10 (io), 15 AN9/CSCK/RB9 (io), 16 AVSS (power), 17 AVDD (power), 18 ~{MCLR} (in), 19 AN0/VREF+/CN2/RB0 (io), 20 AN1/VREF-/CN3/RB1 (io), 21 AN2/~{SS1}/LVDIN/CN4/RB2 (io), 22 AN3/CN5/RB3 (io), 23 AN4/IC7/CN6/RB4 (io), 24 AN5/IC8/CN7/RB5 (io), 25 PGC/EMUC/AN6/OCFA/RB6 (io), 26 PGD/EMUD/AN7/RB7 (io), 27 AN8/RB8 (io), 28 VDD (power), 29 VSS (power), 30 OSC1/CLKI (in), 31 OSC2/CLKO/RC15 (io), 32 EMUD1/SOSCI/T2CK/U1ATX/CN1/RC13 (io), 33 NC, 34 NC, 35 EMUC1/SOSCO/T1CK/U1ARX/CN0/RC14 (io), 36 INT0/RA11 (io), 37 IC2/INT2/RD9 (io), 38 OC4/RD3 (io), 39 VSS (power), 40 VDD (power), 41 OC3/RD2 (io), 42 IC1/INT1/RD8 (io), 43 EMUC3/SCK1/RF6 (io), 44 EMUD3/U1TX/SDO1/SCL/RF3 (io)

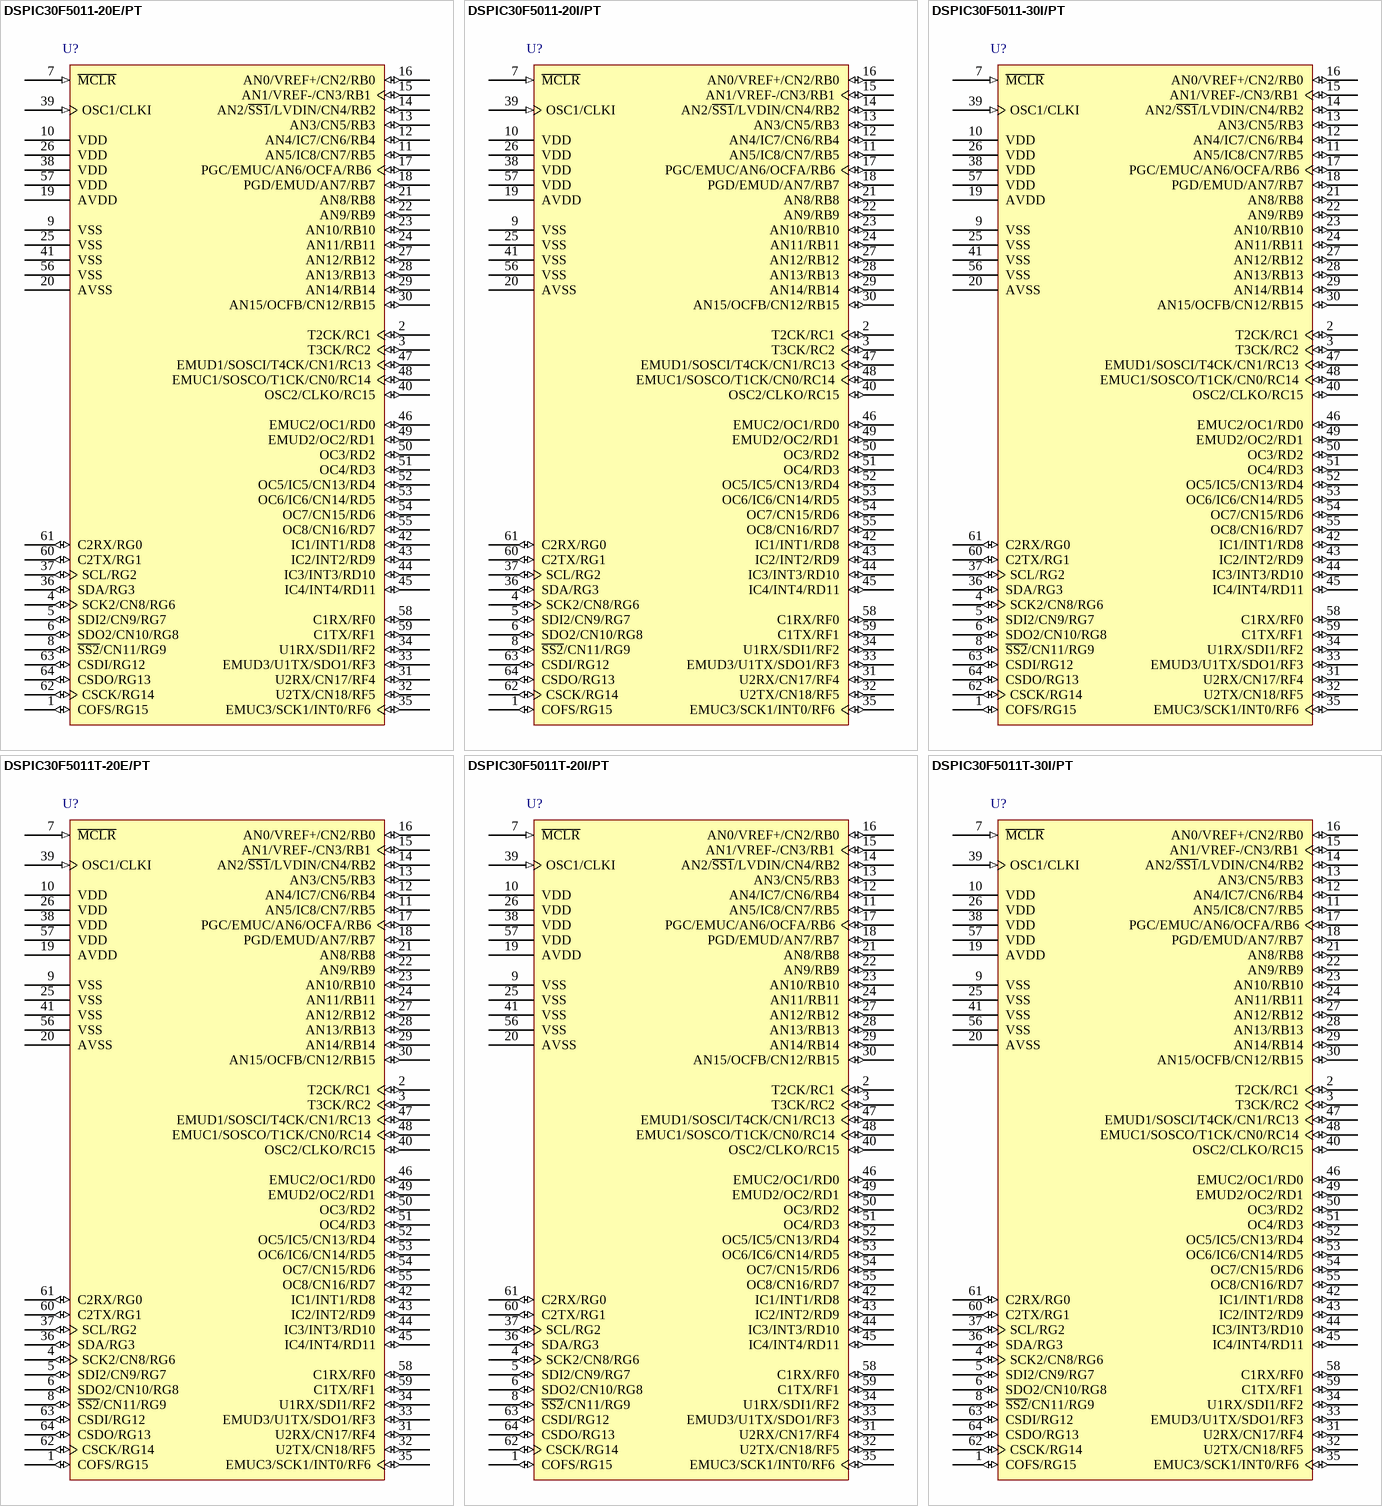
[diagram p27: symbols DSPIC30F5011-20E/PT to DSPIC30F5011T-30I/PT]

## DSPIC30F5011-20E/PT
designator U?
High-Performance 16-bit Digital Signal Controller, 66 KB Flash, 4 KB SRAM, 1 KB EEPROM, 64-Pin TQFP, Extended High Temperature; Published: 29-Jan-2009; DatasheetVersion: revH, Jun-2008; PackageVersion: revAW, Oct-2008; PackageReference: TQFP-PT64; Publisher: Altium Limited; PackageDescription: 64-Lead Thin Plastic Quad Flat Pack (PT) - 10x10x1mm Body, 2.00mm [TQFP]; Code_JEDEC: MS-026; ComponentLink1Description: Manufacturer Link; ComponentLink1URL: http://www.microchip.com; ComponentLink2Description: Datasheet; ComponentLink2URL: http://ww1.microchip.com/downloads/en/DeviceDoc/70116H.pdf; ComponentLink3Description: Packaging Specification; ComponentLink3URL: http://ww1.microchip.com/downloads/en/PackagingSpec/00049AW.pdf
footprint TQFP-PT64_N (Thin QFP, 64-Leads, Body 10x10mm, Pitch 0.5mm, IPC Medium Density)
footprint TQFP-PT64_L (Thin QFP, 64-Leads, Body 10x10mm, Pitch 0.5mm, IPC High Density)
footprint TQFP-PT64_M (Thin QFP, 64-Leads, Body 10x10mm, Pitch 0.5mm, IPC Low Density)
pins: 1 COFS/RG15 (io), 2 T2CK/RC1 (io), 3 T3CK/RC2 (io), 4 SCK2/CN8/RG6 (io), 5 SDI2/CN9/RG7 (io), 6 SDO2/CN10/RG8 (io), 7 ~{MCLR} (in), 8 ~{SS2}/CN11/RG9 (io), 9 VSS (power), 10 VDD (power), 11 AN5/IC8/CN7/RB5 (io), 12 AN4/IC7/CN6/RB4 (io), 13 AN3/CN5/RB3 (io), 14 AN2/~{SS1}/LVDIN/CN4/RB2 (io), 15 AN1/VREF-/CN3/RB1 (io), 16 AN0/VREF+/CN2/RB0 (io), 17 PGC/EMUC/AN6/OCFA/RB6 (io), 18 PGD/EMUD/AN7/RB7 (io), 19 AVDD (power), 20 AVSS (power), 21 AN8/RB8 (io), 22 AN9/RB9 (io), 23 AN10/RB10 (io), 24 AN11/RB11 (io), 25 VSS (power), 26 VDD (power), 27 AN12/RB12 (io), 28 AN13/RB13 (io), 29 AN14/RB14 (io), 30 AN15/OCFB/CN12/RB15 (io), 31 U2RX/CN17/RF4 (io), 32 U2TX/CN18/RF5 (io), 33 EMUD3/U1TX/SDO1/RF3 (io), 34 U1RX/SDI1/RF2 (io), 35 EMUC3/SCK1/INT0/RF6 (io), 36 SDA/RG3 (io), 37 SCL/RG2 (io), 38 VDD (power), 39 OSC1/CLKI (in), 40 OSC2/CLKO/RC15 (io), 41 VSS (power), 42 IC1/INT1/RD8 (io), 43 IC2/INT2/RD9 (io), 44 IC3/INT3/RD10 (io), 45 IC4/INT4/RD11 (io), 46 EMUC2/OC1/RD0 (io), 47 EMUD1/SOSCI/T4CK/CN1/RC13 (io), 48 EMUC1/SOSCO/T1CK/CN0/RC14 (io), 49 EMUD2/OC2/RD1 (io), 50 OC3/RD2 (io), 51 OC4/RD3 (io), 52 OC5/IC5/CN13/RD4 (io), 53 OC6/IC6/CN14/RD5 (io), 54 OC7/CN15/RD6 (io), 55 OC8/CN16/RD7 (io), 56 VSS (power), 57 VDD (power), 58 C1RX/RF0 (io), 59 C1TX/RF1 (io), 60 C2TX/RG1 (io), 61 C2RX/RG0 (io), 62 CSCK/RG14 (io), 63 CSDI/RG12 (io), 64 CSDO/RG13 (io)

## DSPIC30F5011-20I/PT
designator U?
High-Performance 16-bit Digital Signal Controller, 66 KB Flash, 4 KB SRAM, 1 KB EEPROM, 64-Pin TQFP, Industrial Temperature; Published: 29-Jan-2009; DatasheetVersion: revH, Jun-2008; PackageVersion: revAW, Oct-2008; PackageReference: TQFP-PT64; Publisher: Altium Limited; PackageDescription: 64-Lead Thin Plastic Quad Flat Pack (PT) - 10x10x1mm Body, 2.00mm [TQFP]; Code_JEDEC: MS-026; ComponentLink1Description: Manufacturer Link; ComponentLink1URL: http://www.microchip.com; ComponentLink2Description: Datasheet; ComponentLink2URL: http://ww1.microchip.com/downloads/en/DeviceDoc/70116H.pdf; ComponentLink3Description: Packaging Specification; ComponentLink3URL: http://ww1.microchip.com/downloads/en/PackagingSpec/00049AW.pdf
footprint TQFP-PT64_N (Thin QFP, 64-Leads, Body 10x10mm, Pitch 0.5mm, IPC Medium Density)
footprint TQFP-PT64_L (Thin QFP, 64-Leads, Body 10x10mm, Pitch 0.5mm, IPC High Density)
footprint TQFP-PT64_M (Thin QFP, 64-Leads, Body 10x10mm, Pitch 0.5mm, IPC Low Density)
pins: 1 COFS/RG15 (io), 2 T2CK/RC1 (io), 3 T3CK/RC2 (io), 4 SCK2/CN8/RG6 (io), 5 SDI2/CN9/RG7 (io), 6 SDO2/CN10/RG8 (io), 7 ~{MCLR} (in), 8 ~{SS2}/CN11/RG9 (io), 9 VSS (power), 10 VDD (power), 11 AN5/IC8/CN7/RB5 (io), 12 AN4/IC7/CN6/RB4 (io), 13 AN3/CN5/RB3 (io), 14 AN2/~{SS1}/LVDIN/CN4/RB2 (io), 15 AN1/VREF-/CN3/RB1 (io), 16 AN0/VREF+/CN2/RB0 (io), 17 PGC/EMUC/AN6/OCFA/RB6 (io), 18 PGD/EMUD/AN7/RB7 (io), 19 AVDD (power), 20 AVSS (power), 21 AN8/RB8 (io), 22 AN9/RB9 (io), 23 AN10/RB10 (io), 24 AN11/RB11 (io), 25 VSS (power), 26 VDD (power), 27 AN12/RB12 (io), 28 AN13/RB13 (io), 29 AN14/RB14 (io), 30 AN15/OCFB/CN12/RB15 (io), 31 U2RX/CN17/RF4 (io), 32 U2TX/CN18/RF5 (io), 33 EMUD3/U1TX/SDO1/RF3 (io), 34 U1RX/SDI1/RF2 (io), 35 EMUC3/SCK1/INT0/RF6 (io), 36 SDA/RG3 (io), 37 SCL/RG2 (io), 38 VDD (power), 39 OSC1/CLKI (in), 40 OSC2/CLKO/RC15 (io), 41 VSS (power), 42 IC1/INT1/RD8 (io), 43 IC2/INT2/RD9 (io), 44 IC3/INT3/RD10 (io), 45 IC4/INT4/RD11 (io), 46 EMUC2/OC1/RD0 (io), 47 EMUD1/SOSCI/T4CK/CN1/RC13 (io), 48 EMUC1/SOSCO/T1CK/CN0/RC14 (io), 49 EMUD2/OC2/RD1 (io), 50 OC3/RD2 (io), 51 OC4/RD3 (io), 52 OC5/IC5/CN13/RD4 (io), 53 OC6/IC6/CN14/RD5 (io), 54 OC7/CN15/RD6 (io), 55 OC8/CN16/RD7 (io), 56 VSS (power), 57 VDD (power), 58 C1RX/RF0 (io), 59 C1TX/RF1 (io), 60 C2TX/RG1 (io), 61 C2RX/RG0 (io), 62 CSCK/RG14 (io), 63 CSDI/RG12 (io), 64 CSDO/RG13 (io)

## DSPIC30F5011-30I/PT
designator U?
High-Performance 16-bit Digital Signal Controller, 66 KB Flash, 4 KB SRAM, 1 KB EEPROM, 64-Pin TQFP, Industrial Temperature; Published: 29-Jan-2009; DatasheetVersion: revH, Jun-2008; PackageVersion: revAW, Oct-2008; PackageReference: TQFP-PT64; Publisher: Altium Limited; PackageDescription: 64-Lead Thin Plastic Quad Flat Pack (PT) - 10x10x1mm Body, 2.00mm [TQFP]; Code_JEDEC: MS-026; ComponentLink1Description: Manufacturer Link; ComponentLink1URL: http://www.microchip.com; ComponentLink2Description: Datasheet; ComponentLink2URL: http://ww1.microchip.com/downloads/en/DeviceDoc/70116H.pdf; ComponentLink3Description: Packaging Specification; ComponentLink3URL: http://ww1.microchip.com/downloads/en/PackagingSpec/00049AW.pdf
footprint TQFP-PT64_N (Thin QFP, 64-Leads, Body 10x10mm, Pitch 0.5mm, IPC Medium Density)
footprint TQFP-PT64_L (Thin QFP, 64-Leads, Body 10x10mm, Pitch 0.5mm, IPC High Density)
footprint TQFP-PT64_M (Thin QFP, 64-Leads, Body 10x10mm, Pitch 0.5mm, IPC Low Density)
pins: 1 COFS/RG15 (io), 2 T2CK/RC1 (io), 3 T3CK/RC2 (io), 4 SCK2/CN8/RG6 (io), 5 SDI2/CN9/RG7 (io), 6 SDO2/CN10/RG8 (io), 7 ~{MCLR} (in), 8 ~{SS2}/CN11/RG9 (io), 9 VSS (power), 10 VDD (power), 11 AN5/IC8/CN7/RB5 (io), 12 AN4/IC7/CN6/RB4 (io), 13 AN3/CN5/RB3 (io), 14 AN2/~{SS1}/LVDIN/CN4/RB2 (io), 15 AN1/VREF-/CN3/RB1 (io), 16 AN0/VREF+/CN2/RB0 (io), 17 PGC/EMUC/AN6/OCFA/RB6 (io), 18 PGD/EMUD/AN7/RB7 (io), 19 AVDD (power), 20 AVSS (power), 21 AN8/RB8 (io), 22 AN9/RB9 (io), 23 AN10/RB10 (io), 24 AN11/RB11 (io), 25 VSS (power), 26 VDD (power), 27 AN12/RB12 (io), 28 AN13/RB13 (io), 29 AN14/RB14 (io), 30 AN15/OCFB/CN12/RB15 (io), 31 U2RX/CN17/RF4 (io), 32 U2TX/CN18/RF5 (io), 33 EMUD3/U1TX/SDO1/RF3 (io), 34 U1RX/SDI1/RF2 (io), 35 EMUC3/SCK1/INT0/RF6 (io), 36 SDA/RG3 (io), 37 SCL/RG2 (io), 38 VDD (power), 39 OSC1/CLKI (in), 40 OSC2/CLKO/RC15 (io), 41 VSS (power), 42 IC1/INT1/RD8 (io), 43 IC2/INT2/RD9 (io), 44 IC3/INT3/RD10 (io), 45 IC4/INT4/RD11 (io), 46 EMUC2/OC1/RD0 (io), 47 EMUD1/SOSCI/T4CK/CN1/RC13 (io), 48 EMUC1/SOSCO/T1CK/CN0/RC14 (io), 49 EMUD2/OC2/RD1 (io), 50 OC3/RD2 (io), 51 OC4/RD3 (io), 52 OC5/IC5/CN13/RD4 (io), 53 OC6/IC6/CN14/RD5 (io), 54 OC7/CN15/RD6 (io), 55 OC8/CN16/RD7 (io), 56 VSS (power), 57 VDD (power), 58 C1RX/RF0 (io), 59 C1TX/RF1 (io), 60 C2TX/RG1 (io), 61 C2RX/RG0 (io), 62 CSCK/RG14 (io), 63 CSDI/RG12 (io), 64 CSDO/RG13 (io)

## DSPIC30F5011T-20E/PT
designator U?
High-Performance 16-bit Digital Signal Controller, 66 KB Flash, 4 KB SRAM, 1 KB EEPROM, 64-Pin TQFP, Extended High Temperature, Tape and Reel; Published: 29-Jan-2009; DatasheetVersion: revH, Jun-2008; PackageVersion: revAW, Oct-2008; PackageReference: TQFP-PT64; Publisher: Altium Limited; PackageDescription: 64-Lead Thin Plastic Quad Flat Pack (PT) - 10x10x1mm Body, 2.00mm [TQFP]; Code_JEDEC: MS-026; ComponentLink1Description: Manufacturer Link; ComponentLink1URL: http://www.microchip.com; ComponentLink2Description: Datasheet; ComponentLink2URL: http://ww1.microchip.com/downloads/en/DeviceDoc/70116H.pdf; ComponentLink3Description: Packaging Specification; ComponentLink3URL: http://ww1.microchip.com/downloads/en/PackagingSpec/00049AW.pdf
footprint TQFP-PT64_N (Thin QFP, 64-Leads, Body 10x10mm, Pitch 0.5mm, IPC Medium Density)
footprint TQFP-PT64_L (Thin QFP, 64-Leads, Body 10x10mm, Pitch 0.5mm, IPC High Density)
footprint TQFP-PT64_M (Thin QFP, 64-Leads, Body 10x10mm, Pitch 0.5mm, IPC Low Density)
pins: 1 COFS/RG15 (io), 2 T2CK/RC1 (io), 3 T3CK/RC2 (io), 4 SCK2/CN8/RG6 (io), 5 SDI2/CN9/RG7 (io), 6 SDO2/CN10/RG8 (io), 7 ~{MCLR} (in), 8 ~{SS2}/CN11/RG9 (io), 9 VSS (power), 10 VDD (power), 11 AN5/IC8/CN7/RB5 (io), 12 AN4/IC7/CN6/RB4 (io), 13 AN3/CN5/RB3 (io), 14 AN2/~{SS1}/LVDIN/CN4/RB2 (io), 15 AN1/VREF-/CN3/RB1 (io), 16 AN0/VREF+/CN2/RB0 (io), 17 PGC/EMUC/AN6/OCFA/RB6 (io), 18 PGD/EMUD/AN7/RB7 (io), 19 AVDD (power), 20 AVSS (power), 21 AN8/RB8 (io), 22 AN9/RB9 (io), 23 AN10/RB10 (io), 24 AN11/RB11 (io), 25 VSS (power), 26 VDD (power), 27 AN12/RB12 (io), 28 AN13/RB13 (io), 29 AN14/RB14 (io), 30 AN15/OCFB/CN12/RB15 (io), 31 U2RX/CN17/RF4 (io), 32 U2TX/CN18/RF5 (io), 33 EMUD3/U1TX/SDO1/RF3 (io), 34 U1RX/SDI1/RF2 (io), 35 EMUC3/SCK1/INT0/RF6 (io), 36 SDA/RG3 (io), 37 SCL/RG2 (io), 38 VDD (power), 39 OSC1/CLKI (in), 40 OSC2/CLKO/RC15 (io), 41 VSS (power), 42 IC1/INT1/RD8 (io), 43 IC2/INT2/RD9 (io), 44 IC3/INT3/RD10 (io), 45 IC4/INT4/RD11 (io), 46 EMUC2/OC1/RD0 (io), 47 EMUD1/SOSCI/T4CK/CN1/RC13 (io), 48 EMUC1/SOSCO/T1CK/CN0/RC14 (io), 49 EMUD2/OC2/RD1 (io), 50 OC3/RD2 (io), 51 OC4/RD3 (io), 52 OC5/IC5/CN13/RD4 (io), 53 OC6/IC6/CN14/RD5 (io), 54 OC7/CN15/RD6 (io), 55 OC8/CN16/RD7 (io), 56 VSS (power), 57 VDD (power), 58 C1RX/RF0 (io), 59 C1TX/RF1 (io), 60 C2TX/RG1 (io), 61 C2RX/RG0 (io), 62 CSCK/RG14 (io), 63 CSDI/RG12 (io), 64 CSDO/RG13 (io)

## DSPIC30F5011T-20I/PT
designator U?
High-Performance 16-bit Digital Signal Controller, 66 KB Flash, 4 KB SRAM, 1 KB EEPROM, 64-Pin TQFP, Industrial Temperature, Tape and Reel; Published: 29-Jan-2009; DatasheetVersion: revH, Jun-2008; PackageVersion: revAW, Oct-2008; PackageReference: TQFP-PT64; Publisher: Altium Limited; PackageDescription: 64-Lead Thin Plastic Quad Flat Pack (PT) - 10x10x1mm Body, 2.00mm [TQFP]; Code_JEDEC: MS-026; ComponentLink1Description: Manufacturer Link; ComponentLink1URL: http://www.microchip.com; ComponentLink2Description: Datasheet; ComponentLink2URL: http://ww1.microchip.com/downloads/en/DeviceDoc/70116H.pdf; ComponentLink3Description: Packaging Specification; ComponentLink3URL: http://ww1.microchip.com/downloads/en/PackagingSpec/00049AW.pdf
footprint TQFP-PT64_N (Thin QFP, 64-Leads, Body 10x10mm, Pitch 0.5mm, IPC Medium Density)
footprint TQFP-PT64_L (Thin QFP, 64-Leads, Body 10x10mm, Pitch 0.5mm, IPC High Density)
footprint TQFP-PT64_M (Thin QFP, 64-Leads, Body 10x10mm, Pitch 0.5mm, IPC Low Density)
pins: 1 COFS/RG15 (io), 2 T2CK/RC1 (io), 3 T3CK/RC2 (io), 4 SCK2/CN8/RG6 (io), 5 SDI2/CN9/RG7 (io), 6 SDO2/CN10/RG8 (io), 7 ~{MCLR} (in), 8 ~{SS2}/CN11/RG9 (io), 9 VSS (power), 10 VDD (power), 11 AN5/IC8/CN7/RB5 (io), 12 AN4/IC7/CN6/RB4 (io), 13 AN3/CN5/RB3 (io), 14 AN2/~{SS1}/LVDIN/CN4/RB2 (io), 15 AN1/VREF-/CN3/RB1 (io), 16 AN0/VREF+/CN2/RB0 (io), 17 PGC/EMUC/AN6/OCFA/RB6 (io), 18 PGD/EMUD/AN7/RB7 (io), 19 AVDD (power), 20 AVSS (power), 21 AN8/RB8 (io), 22 AN9/RB9 (io), 23 AN10/RB10 (io), 24 AN11/RB11 (io), 25 VSS (power), 26 VDD (power), 27 AN12/RB12 (io), 28 AN13/RB13 (io), 29 AN14/RB14 (io), 30 AN15/OCFB/CN12/RB15 (io), 31 U2RX/CN17/RF4 (io), 32 U2TX/CN18/RF5 (io), 33 EMUD3/U1TX/SDO1/RF3 (io), 34 U1RX/SDI1/RF2 (io), 35 EMUC3/SCK1/INT0/RF6 (io), 36 SDA/RG3 (io), 37 SCL/RG2 (io), 38 VDD (power), 39 OSC1/CLKI (in), 40 OSC2/CLKO/RC15 (io), 41 VSS (power), 42 IC1/INT1/RD8 (io), 43 IC2/INT2/RD9 (io), 44 IC3/INT3/RD10 (io), 45 IC4/INT4/RD11 (io), 46 EMUC2/OC1/RD0 (io), 47 EMUD1/SOSCI/T4CK/CN1/RC13 (io), 48 EMUC1/SOSCO/T1CK/CN0/RC14 (io), 49 EMUD2/OC2/RD1 (io), 50 OC3/RD2 (io), 51 OC4/RD3 (io), 52 OC5/IC5/CN13/RD4 (io), 53 OC6/IC6/CN14/RD5 (io), 54 OC7/CN15/RD6 (io), 55 OC8/CN16/RD7 (io), 56 VSS (power), 57 VDD (power), 58 C1RX/RF0 (io), 59 C1TX/RF1 (io), 60 C2TX/RG1 (io), 61 C2RX/RG0 (io), 62 CSCK/RG14 (io), 63 CSDI/RG12 (io), 64 CSDO/RG13 (io)

## DSPIC30F5011T-30I/PT
designator U?
High-Performance 16-bit Digital Signal Controller, 66 KB Flash, 4 KB SRAM, 1 KB EEPROM, 64-Pin TQFP, Industrial Temperature, Tape and Reel; Published: 29-Jan-2009; DatasheetVersion: revH, Jun-2008; PackageVersion: revAW, Oct-2008; PackageReference: TQFP-PT64; Publisher: Altium Limited; PackageDescription: 64-Lead Thin Plastic Quad Flat Pack (PT) - 10x10x1mm Body, 2.00mm [TQFP]; Code_JEDEC: MS-026; ComponentLink1Description: Manufacturer Link; ComponentLink1URL: http://www.microchip.com; ComponentLink2Description: Datasheet; ComponentLink2URL: http://ww1.microchip.com/downloads/en/DeviceDoc/70116H.pdf; ComponentLink3Description: Packaging Specification; ComponentLink3URL: http://ww1.microchip.com/downloads/en/PackagingSpec/00049AW.pdf
footprint TQFP-PT64_N (Thin QFP, 64-Leads, Body 10x10mm, Pitch 0.5mm, IPC Medium Density)
footprint TQFP-PT64_L (Thin QFP, 64-Leads, Body 10x10mm, Pitch 0.5mm, IPC High Density)
footprint TQFP-PT64_M (Thin QFP, 64-Leads, Body 10x10mm, Pitch 0.5mm, IPC Low Density)
pins: 1 COFS/RG15 (io), 2 T2CK/RC1 (io), 3 T3CK/RC2 (io), 4 SCK2/CN8/RG6 (io), 5 SDI2/CN9/RG7 (io), 6 SDO2/CN10/RG8 (io), 7 ~{MCLR} (in), 8 ~{SS2}/CN11/RG9 (io), 9 VSS (power), 10 VDD (power), 11 AN5/IC8/CN7/RB5 (io), 12 AN4/IC7/CN6/RB4 (io), 13 AN3/CN5/RB3 (io), 14 AN2/~{SS1}/LVDIN/CN4/RB2 (io), 15 AN1/VREF-/CN3/RB1 (io), 16 AN0/VREF+/CN2/RB0 (io), 17 PGC/EMUC/AN6/OCFA/RB6 (io), 18 PGD/EMUD/AN7/RB7 (io), 19 AVDD (power), 20 AVSS (power), 21 AN8/RB8 (io), 22 AN9/RB9 (io), 23 AN10/RB10 (io), 24 AN11/RB11 (io), 25 VSS (power), 26 VDD (power), 27 AN12/RB12 (io), 28 AN13/RB13 (io), 29 AN14/RB14 (io), 30 AN15/OCFB/CN12/RB15 (io), 31 U2RX/CN17/RF4 (io), 32 U2TX/CN18/RF5 (io), 33 EMUD3/U1TX/SDO1/RF3 (io), 34 U1RX/SDI1/RF2 (io), 35 EMUC3/SCK1/INT0/RF6 (io), 36 SDA/RG3 (io), 37 SCL/RG2 (io), 38 VDD (power), 39 OSC1/CLKI (in), 40 OSC2/CLKO/RC15 (io), 41 VSS (power), 42 IC1/INT1/RD8 (io), 43 IC2/INT2/RD9 (io), 44 IC3/INT3/RD10 (io), 45 IC4/INT4/RD11 (io), 46 EMUC2/OC1/RD0 (io), 47 EMUD1/SOSCI/T4CK/CN1/RC13 (io), 48 EMUC1/SOSCO/T1CK/CN0/RC14 (io), 49 EMUD2/OC2/RD1 (io), 50 OC3/RD2 (io), 51 OC4/RD3 (io), 52 OC5/IC5/CN13/RD4 (io), 53 OC6/IC6/CN14/RD5 (io), 54 OC7/CN15/RD6 (io), 55 OC8/CN16/RD7 (io), 56 VSS (power), 57 VDD (power), 58 C1RX/RF0 (io), 59 C1TX/RF1 (io), 60 C2TX/RG1 (io), 61 C2RX/RG0 (io), 62 CSCK/RG14 (io), 63 CSDI/RG12 (io), 64 CSDO/RG13 (io)

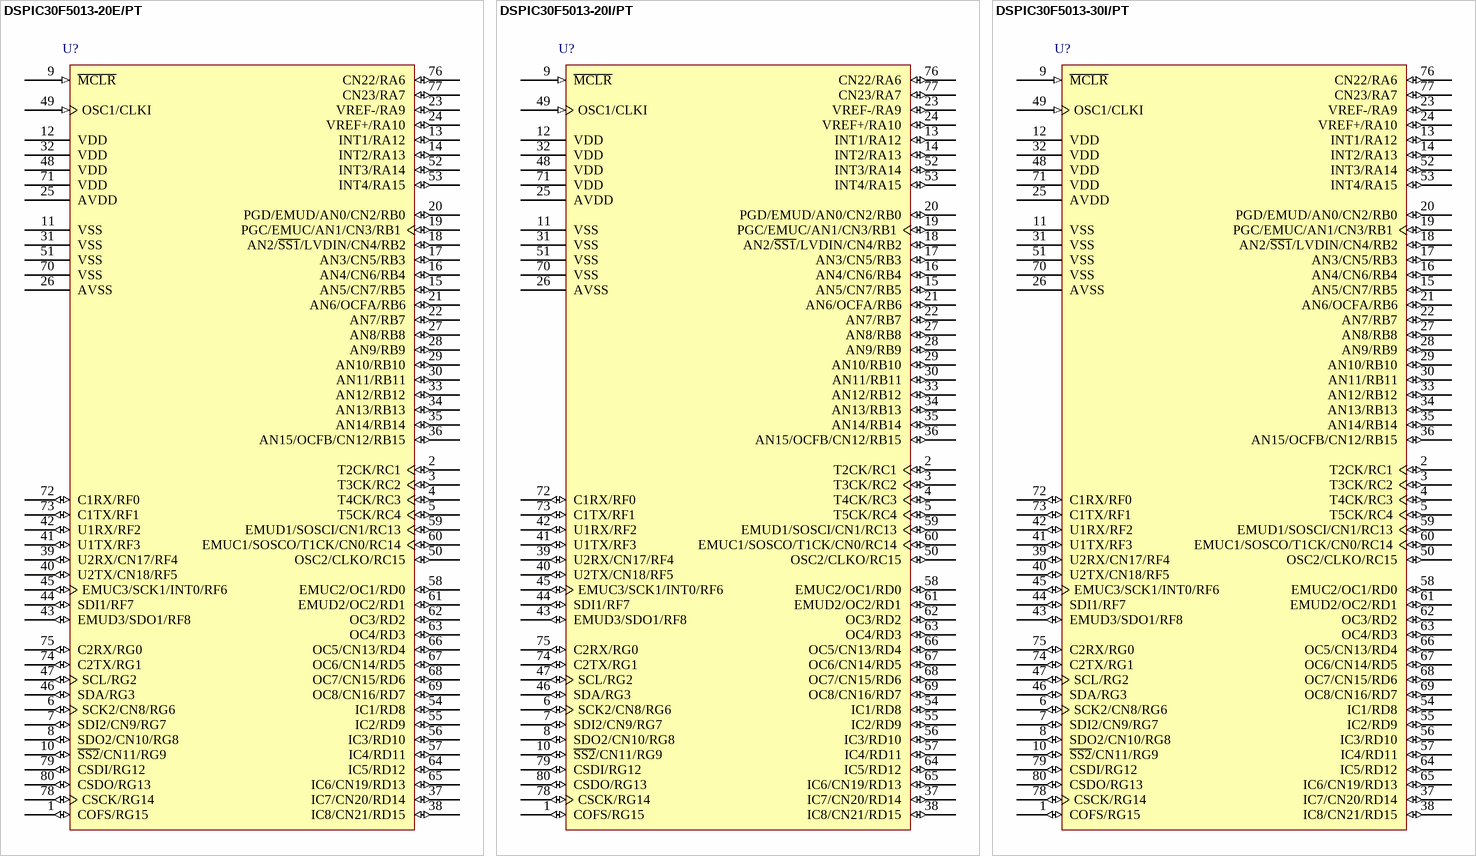
[diagram p28: symbols DSPIC30F5013-20E/PT to DSPIC30F5013-30I/PT]

## DSPIC30F5013-20E/PT
designator U?
High-Performance 16-bit Digital Signal Controller, 66 KB Flash, 4 KB SRAM, 1 KB EEPROM, 80-Pin TQFP, Extended High Temperature; Published: 29-Jan-2009; DatasheetVersion: revH, Jun-2008; PackageVersion: revAW, Oct-2008; PackageReference: TQFP-PT80; Publisher: Altium Limited; PackageDescription: 80-Lead Thin Plastic Quad Flat Pack (PT) - 12x12x1mm Body, 2.00mm [TQFP]; Code_JEDEC: MS-026; ComponentLink1Description: Manufacturer Link; ComponentLink1URL: http://www.microchip.com; ComponentLink2Description: Datasheet; ComponentLink2URL: http://ww1.microchip.com/downloads/en/DeviceDoc/70116H.pdf; ComponentLink3Description: Packaging Specification; ComponentLink3URL: http://ww1.microchip.com/downloads/en/PackagingSpec/00049AW.pdf
footprint TQFP-PT80_N (Thin QFP, 80-Leads, Body 12x12mm, Pitch 0.5mm, IPC Medium Density)
footprint TQFP-PT80_L (Thin QFP, 80-Leads, Body 12x12mm, Pitch 0.5mm, IPC High Density)
footprint TQFP-PT80_M (Thin QFP, 80-Leads, Body 12x12mm, Pitch 0.5mm, IPC Low Density)
pins: 1 COFS/RG15 (io), 2 T2CK/RC1 (io), 3 T3CK/RC2 (io), 4 T4CK/RC3 (io), 5 T5CK/RC4 (io), 6 SCK2/CN8/RG6 (io), 7 SDI2/CN9/RG7 (io), 8 SDO2/CN10/RG8 (io), 9 ~{MCLR} (in), 10 ~{SS2}/CN11/RG9 (io), 11 VSS (power), 12 VDD (power), 13 INT1/RA12 (io), 14 INT2/RA13 (io), 15 AN5/CN7/RB5 (io), 16 AN4/CN6/RB4 (io), 17 AN3/CN5/RB3 (io), 18 AN2/~{SS1}/LVDIN/CN4/RB2 (io), 19 PGC/EMUC/AN1/CN3/RB1 (io), 20 PGD/EMUD/AN0/CN2/RB0 (io), 21 AN6/OCFA/RB6 (io), 22 AN7/RB7 (io), 23 VREF-/RA9 (io), 24 VREF+/RA10 (io), 25 AVDD (power), 26 AVSS (power), 27 AN8/RB8 (io), 28 AN9/RB9 (io), 29 AN10/RB10 (io), 30 AN11/RB11 (io), 31 VSS (power), 32 VDD (power), 33 AN12/RB12 (io), 34 AN13/RB13 (io), 35 AN14/RB14 (io), 36 AN15/OCFB/CN12/RB15 (io), 37 IC7/CN20/RD14 (io), 38 IC8/CN21/RD15 (io), 39 U2RX/CN17/RF4 (io), 40 U2TX/CN18/RF5 (io), 41 U1TX/RF3 (io), 42 U1RX/RF2 (io), 43 EMUD3/SDO1/RF8 (io), 44 SDI1/RF7 (io), 45 EMUC3/SCK1/INT0/RF6 (io), 46 SDA/RG3 (io), 47 SCL/RG2 (io), 48 VDD (power), 49 OSC1/CLKI (in), 50 OSC2/CLKO/RC15 (io), 51 VSS (power), 52 INT3/RA14 (io), 53 INT4/RA15 (io), 54 IC1/RD8 (io), 55 IC2/RD9 (io), 56 IC3/RD10 (io), 57 IC4/RD11 (io), 58 EMUC2/OC1/RD0 (io), 59 EMUD1/SOSCI/CN1/RC13 (io), 60 EMUC1/SOSCO/T1CK/CN0/RC14 (io), 61 EMUD2/OC2/RD1 (io), 62 OC3/RD2 (io), 63 OC4/RD3 (io), 64 IC5/RD12 (io), 65 IC6/CN19/RD13 (io), 66 OC5/CN13/RD4 (io), 67 OC6/CN14/RD5 (io), 68 OC7/CN15/RD6 (io), 69 OC8/CN16/RD7 (io), 70 VSS (power), 71 VDD (power), 72 C1RX/RF0 (io), 73 C1TX/RF1 (io), 74 C2TX/RG1 (io), 75 C2RX/RG0 (io), 76 CN22/RA6 (io), 77 CN23/RA7 (io), 78 CSCK/RG14 (io), 79 CSDI/RG12 (io), 80 CSDO/RG13 (io)

## DSPIC30F5013-20I/PT
designator U?
High-Performance 16-bit Digital Signal Controller, 66 KB Flash, 4 KB SRAM, 1 KB EEPROM, 80-Pin TQFP, Industrial Temperature; Published: 29-Jan-2009; DatasheetVersion: revH, Jun-2008; PackageVersion: revAW, Oct-2008; PackageReference: TQFP-PT80; Publisher: Altium Limited; PackageDescription: 80-Lead Thin Plastic Quad Flat Pack (PT) - 12x12x1mm Body, 2.00mm [TQFP]; Code_JEDEC: MS-026; ComponentLink1Description: Manufacturer Link; ComponentLink1URL: http://www.microchip.com; ComponentLink2Description: Datasheet; ComponentLink2URL: http://ww1.microchip.com/downloads/en/DeviceDoc/70116H.pdf; ComponentLink3Description: Packaging Specification; ComponentLink3URL: http://ww1.microchip.com/downloads/en/PackagingSpec/00049AW.pdf
footprint TQFP-PT80_N (Thin QFP, 80-Leads, Body 12x12mm, Pitch 0.5mm, IPC Medium Density)
footprint TQFP-PT80_L (Thin QFP, 80-Leads, Body 12x12mm, Pitch 0.5mm, IPC High Density)
footprint TQFP-PT80_M (Thin QFP, 80-Leads, Body 12x12mm, Pitch 0.5mm, IPC Low Density)
pins: 1 COFS/RG15 (io), 2 T2CK/RC1 (io), 3 T3CK/RC2 (io), 4 T4CK/RC3 (io), 5 T5CK/RC4 (io), 6 SCK2/CN8/RG6 (io), 7 SDI2/CN9/RG7 (io), 8 SDO2/CN10/RG8 (io), 9 ~{MCLR} (in), 10 ~{SS2}/CN11/RG9 (io), 11 VSS (power), 12 VDD (power), 13 INT1/RA12 (io), 14 INT2/RA13 (io), 15 AN5/CN7/RB5 (io), 16 AN4/CN6/RB4 (io), 17 AN3/CN5/RB3 (io), 18 AN2/~{SS1}/LVDIN/CN4/RB2 (io), 19 PGC/EMUC/AN1/CN3/RB1 (io), 20 PGD/EMUD/AN0/CN2/RB0 (io), 21 AN6/OCFA/RB6 (io), 22 AN7/RB7 (io), 23 VREF-/RA9 (io), 24 VREF+/RA10 (io), 25 AVDD (power), 26 AVSS (power), 27 AN8/RB8 (io), 28 AN9/RB9 (io), 29 AN10/RB10 (io), 30 AN11/RB11 (io), 31 VSS (power), 32 VDD (power), 33 AN12/RB12 (io), 34 AN13/RB13 (io), 35 AN14/RB14 (io), 36 AN15/OCFB/CN12/RB15 (io), 37 IC7/CN20/RD14 (io), 38 IC8/CN21/RD15 (io), 39 U2RX/CN17/RF4 (io), 40 U2TX/CN18/RF5 (io), 41 U1TX/RF3 (io), 42 U1RX/RF2 (io), 43 EMUD3/SDO1/RF8 (io), 44 SDI1/RF7 (io), 45 EMUC3/SCK1/INT0/RF6 (io), 46 SDA/RG3 (io), 47 SCL/RG2 (io), 48 VDD (power), 49 OSC1/CLKI (in), 50 OSC2/CLKO/RC15 (io), 51 VSS (power), 52 INT3/RA14 (io), 53 INT4/RA15 (io), 54 IC1/RD8 (io), 55 IC2/RD9 (io), 56 IC3/RD10 (io), 57 IC4/RD11 (io), 58 EMUC2/OC1/RD0 (io), 59 EMUD1/SOSCI/CN1/RC13 (io), 60 EMUC1/SOSCO/T1CK/CN0/RC14 (io), 61 EMUD2/OC2/RD1 (io), 62 OC3/RD2 (io), 63 OC4/RD3 (io), 64 IC5/RD12 (io), 65 IC6/CN19/RD13 (io), 66 OC5/CN13/RD4 (io), 67 OC6/CN14/RD5 (io), 68 OC7/CN15/RD6 (io), 69 OC8/CN16/RD7 (io), 70 VSS (power), 71 VDD (power), 72 C1RX/RF0 (io), 73 C1TX/RF1 (io), 74 C2TX/RG1 (io), 75 C2RX/RG0 (io), 76 CN22/RA6 (io), 77 CN23/RA7 (io), 78 CSCK/RG14 (io), 79 CSDI/RG12 (io), 80 CSDO/RG13 (io)

## DSPIC30F5013-30I/PT
designator U?
High-Performance 16-bit Digital Signal Controller, 66 KB Flash, 4 KB SRAM, 1 KB EEPROM, 80-Pin TQFP, Industrial Temperature; Published: 29-Jan-2009; DatasheetVersion: revH, Jun-2008; PackageVersion: revAW, Oct-2008; PackageReference: TQFP-PT80; Publisher: Altium Limited; PackageDescription: 80-Lead Thin Plastic Quad Flat Pack (PT) - 12x12x1mm Body, 2.00mm [TQFP]; Code_JEDEC: MS-026; ComponentLink1Description: Manufacturer Link; ComponentLink1URL: http://www.microchip.com; ComponentLink2Description: Datasheet; ComponentLink2URL: http://ww1.microchip.com/downloads/en/DeviceDoc/70116H.pdf; ComponentLink3Description: Packaging Specification; ComponentLink3URL: http://ww1.microchip.com/downloads/en/PackagingSpec/00049AW.pdf
footprint TQFP-PT80_N (Thin QFP, 80-Leads, Body 12x12mm, Pitch 0.5mm, IPC Medium Density)
footprint TQFP-PT80_L (Thin QFP, 80-Leads, Body 12x12mm, Pitch 0.5mm, IPC High Density)
footprint TQFP-PT80_M (Thin QFP, 80-Leads, Body 12x12mm, Pitch 0.5mm, IPC Low Density)
pins: 1 COFS/RG15 (io), 2 T2CK/RC1 (io), 3 T3CK/RC2 (io), 4 T4CK/RC3 (io), 5 T5CK/RC4 (io), 6 SCK2/CN8/RG6 (io), 7 SDI2/CN9/RG7 (io), 8 SDO2/CN10/RG8 (io), 9 ~{MCLR} (in), 10 ~{SS2}/CN11/RG9 (io), 11 VSS (power), 12 VDD (power), 13 INT1/RA12 (io), 14 INT2/RA13 (io), 15 AN5/CN7/RB5 (io), 16 AN4/CN6/RB4 (io), 17 AN3/CN5/RB3 (io), 18 AN2/~{SS1}/LVDIN/CN4/RB2 (io), 19 PGC/EMUC/AN1/CN3/RB1 (io), 20 PGD/EMUD/AN0/CN2/RB0 (io), 21 AN6/OCFA/RB6 (io), 22 AN7/RB7 (io), 23 VREF-/RA9 (io), 24 VREF+/RA10 (io), 25 AVDD (power), 26 AVSS (power), 27 AN8/RB8 (io), 28 AN9/RB9 (io), 29 AN10/RB10 (io), 30 AN11/RB11 (io), 31 VSS (power), 32 VDD (power), 33 AN12/RB12 (io), 34 AN13/RB13 (io), 35 AN14/RB14 (io), 36 AN15/OCFB/CN12/RB15 (io), 37 IC7/CN20/RD14 (io), 38 IC8/CN21/RD15 (io), 39 U2RX/CN17/RF4 (io), 40 U2TX/CN18/RF5 (io), 41 U1TX/RF3 (io), 42 U1RX/RF2 (io), 43 EMUD3/SDO1/RF8 (io), 44 SDI1/RF7 (io), 45 EMUC3/SCK1/INT0/RF6 (io), 46 SDA/RG3 (io), 47 SCL/RG2 (io), 48 VDD (power), 49 OSC1/CLKI (in), 50 OSC2/CLKO/RC15 (io), 51 VSS (power), 52 INT3/RA14 (io), 53 INT4/RA15 (io), 54 IC1/RD8 (io), 55 IC2/RD9 (io), 56 IC3/RD10 (io), 57 IC4/RD11 (io), 58 EMUC2/OC1/RD0 (io), 59 EMUD1/SOSCI/CN1/RC13 (io), 60 EMUC1/SOSCO/T1CK/CN0/RC14 (io), 61 EMUD2/OC2/RD1 (io), 62 OC3/RD2 (io), 63 OC4/RD3 (io), 64 IC5/RD12 (io), 65 IC6/CN19/RD13 (io), 66 OC5/CN13/RD4 (io), 67 OC6/CN14/RD5 (io), 68 OC7/CN15/RD6 (io), 69 OC8/CN16/RD7 (io), 70 VSS (power), 71 VDD (power), 72 C1RX/RF0 (io), 73 C1TX/RF1 (io), 74 C2TX/RG1 (io), 75 C2RX/RG0 (io), 76 CN22/RA6 (io), 77 CN23/RA7 (io), 78 CSCK/RG14 (io), 79 CSDI/RG12 (io), 80 CSDO/RG13 (io)

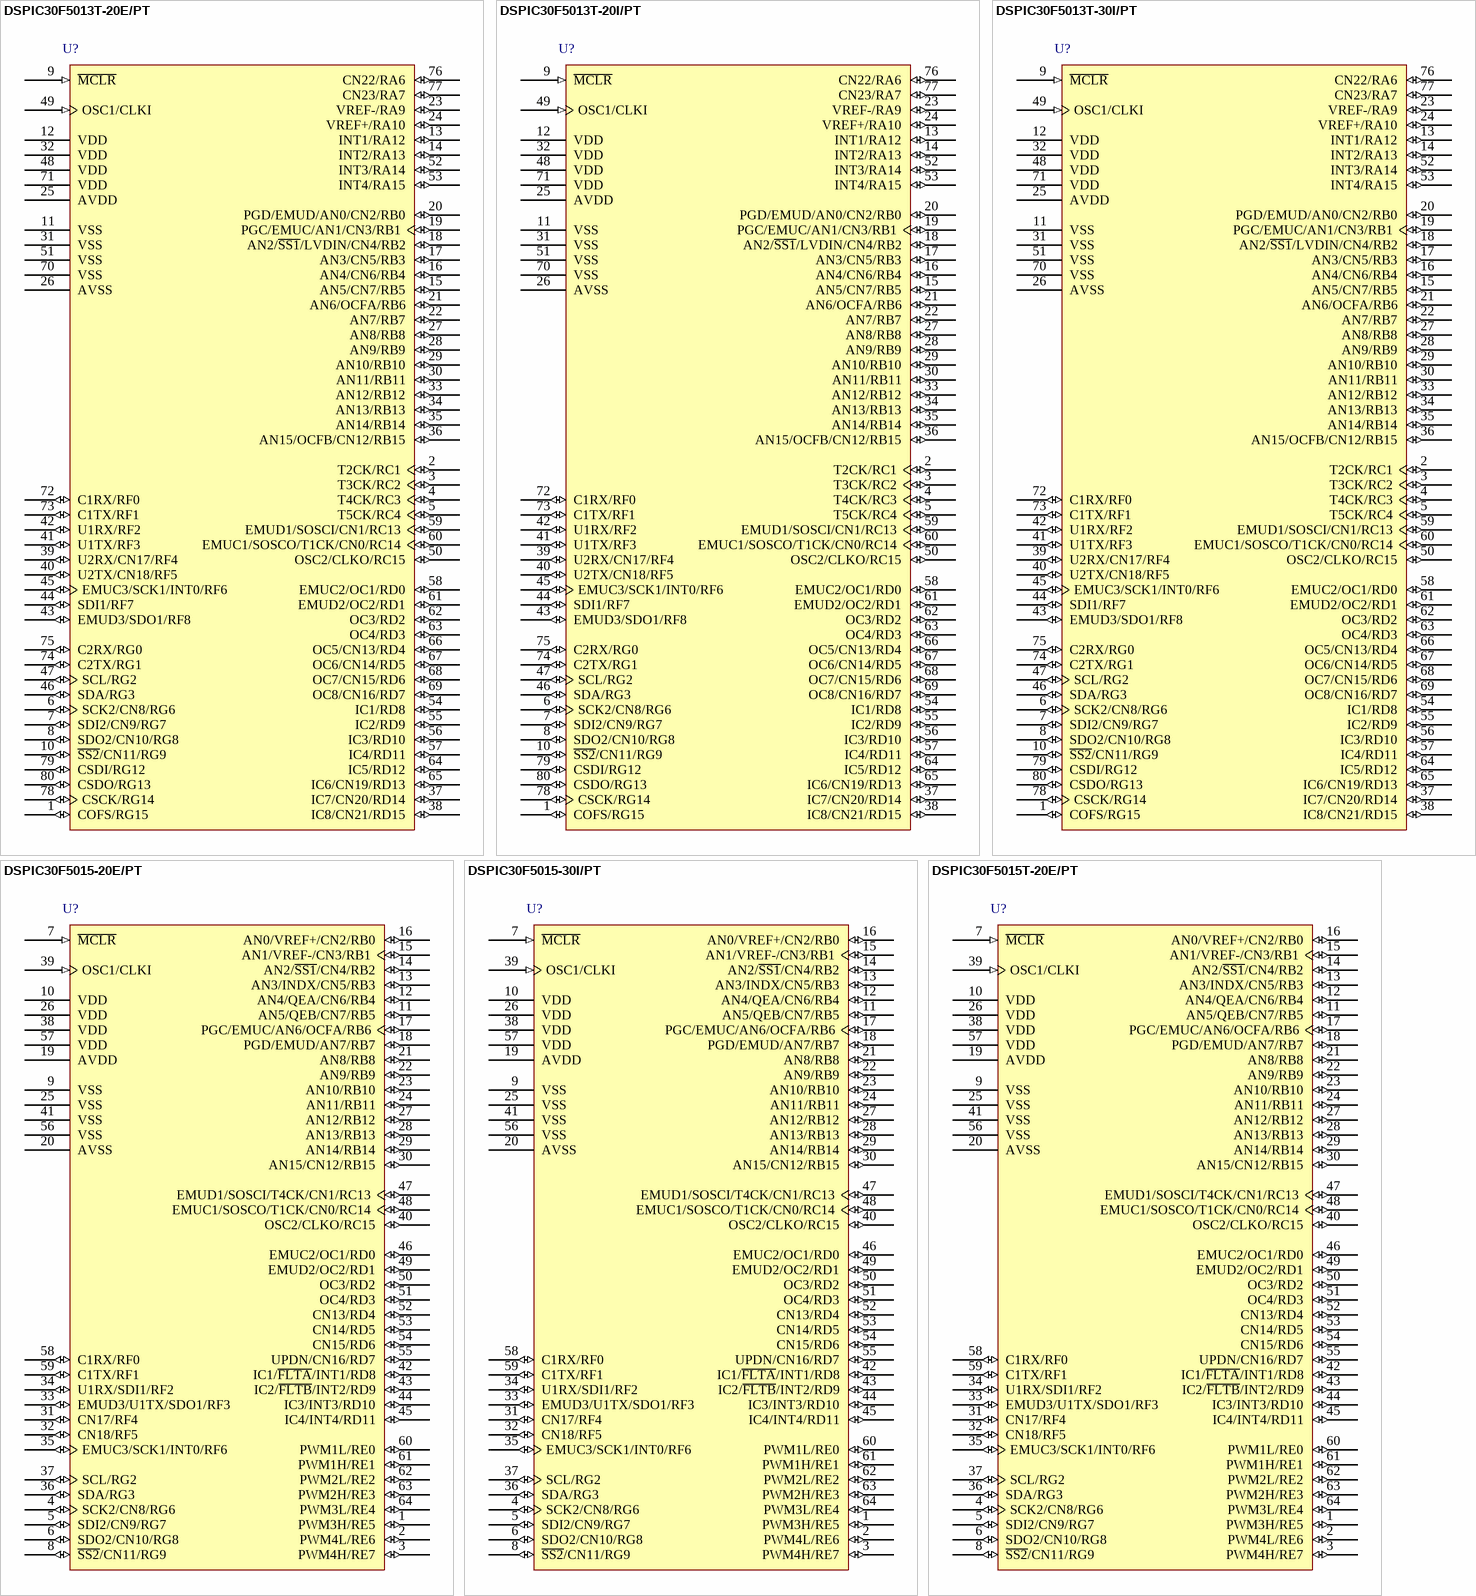
[diagram p29: symbols DSPIC30F5013T-20E/PT to DSPIC30F5015T-20E/PT]